# Altium schematic symbol library ubloxLib.SchLib: 59 symbols (part 1 of 2)
Pins are listed as number, name and electrical type; pins without a type are passive.

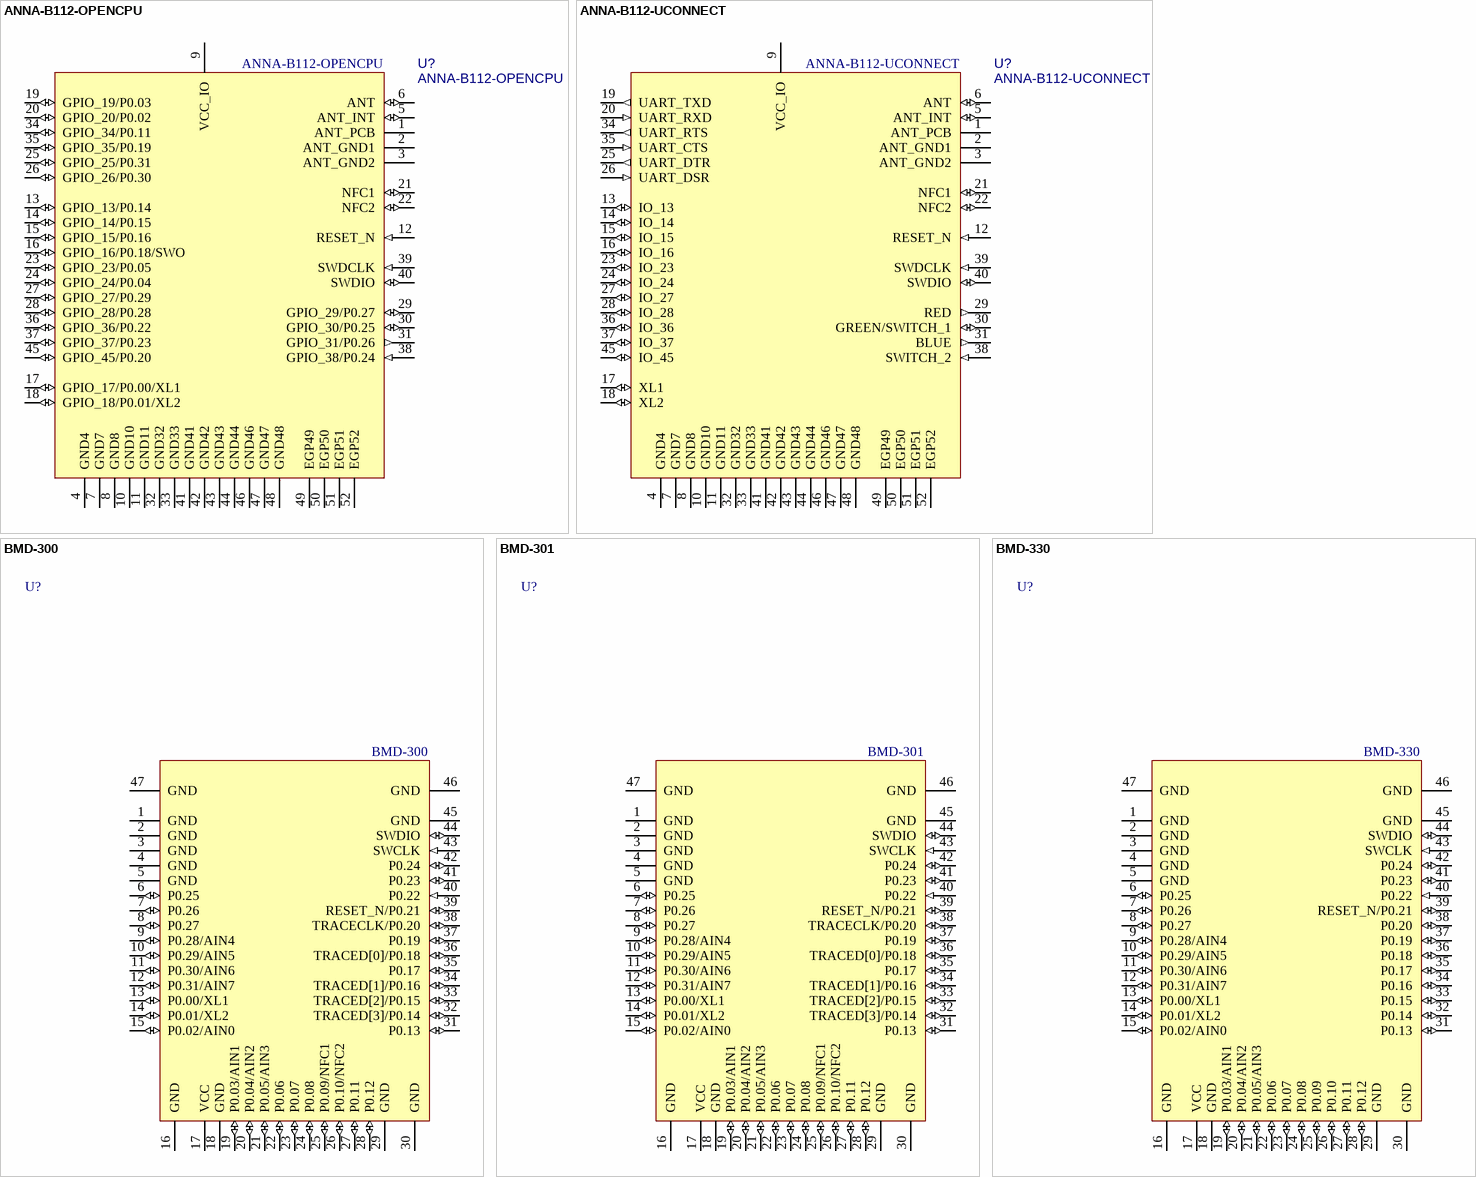
[diagram p0: symbols ANNA-B112-OPENCPU to BMD-330]

## ANNA-B112-OPENCPU
designator U?
u-blox ANNA-B112 Bluetooth 5 LE module; Part Description: Stand-alone Bluetooth low energy module; Manufacturer: u-blox; Value: ANNA-B112-OPENCPU
footprint ANNA_LGA52S_650X650
pins: 1 ANT_PCB, 2 ANT_GND1 (power), 3 ANT_GND2 (power), 4 GND4 (power), 5 ANT_INT (io), 6 ANT (io), 7 GND7 (power), 8 GND8 (power), 9 VCC_IO (power), 10 GND10 (power), 11 GND11 (power), 12 RESET_N (in), 13 GPIO_13/P0.14 (io), 14 GPIO_14/P0.15 (io), 15 GPIO_15/P0.16 (io), 16 GPIO_16/P0.18/SWO (io), 17 GPIO_17/P0.00/XL1 (io), 18 GPIO_18/P0.01/XL2 (io), 19 GPIO_19/P0.03 (io), 20 GPIO_20/P0.02 (io), 21 NFC1 (io), 22 NFC2 (io), 23 GPIO_23/P0.05 (io), 24 GPIO_24/P0.04 (io), 25 GPIO_25/P0.31 (io), 26 GPIO_26/P0.30 (io), 27 GPIO_27/P0.29 (io), 28 GPIO_28/P0.28 (io), 29 GPIO_29/P0.27 (io), 30 GPIO_30/P0.25 (io), 31 GPIO_31/P0.26 (out), 32 GND32 (power), 33 GND33 (power), 34 GPIO_34/P0.11 (io), 35 GPIO_35/P0.19 (io), 36 GPIO_36/P0.22 (io), 37 GPIO_37/P0.23 (io), 38 GPIO_38/P0.24 (in), 39 SWDCLK (in), 40 SWDIO (io), 41 GND41 (power), 42 GND42 (power), 43 GND43 (power), 44 GND44 (power), 45 GPIO_45/P0.20 (io), 46 GND46 (power), 47 GND47 (power), 48 GND48 (power), 49 EGP49 (power), 50 EGP50 (power), 51 EGP51 (power), 52 EGP52 (power)

## ANNA-B112-UCONNECT
designator U?
u-blox ANNA-B112 Bluetooth 5 LE module; Part Description: Stand-alone Bluetooth low energy module; Manufacturer: u-blox; Value: ANNA-B112-UCONNECT
footprint ANNA_LGA52S_650X650
pins: 1 ANT_PCB, 2 ANT_GND1 (power), 3 ANT_GND2 (power), 4 GND4 (power), 5 ANT_INT (io), 6 ANT (io), 7 GND7 (power), 8 GND8 (power), 9 VCC_IO (power), 10 GND10 (power), 11 GND11 (power), 12 RESET_N (in), 13 IO_13 (io), 14 IO_14 (io), 15 IO_15 (io), 16 IO_16 (io), 17 XL1 (io), 18 XL2 (io), 19 UART_TXD (out), 20 UART_RXD (in), 21 NFC1 (io), 22 NFC2 (io), 23 IO_23 (io), 24 IO_24 (io), 25 UART_DTR (out), 26 UART_DSR (in), 27 IO_27 (io), 28 IO_28 (io), 29 RED (out), 30 GREEN/SWITCH_1 (io), 31 BLUE (out), 32 GND32 (power), 33 GND33 (power), 34 UART_RTS (out), 35 UART_CTS (in), 36 IO_36 (io), 37 IO_37 (io), 38 SWITCH_2 (in), 39 SWDCLK (in), 40 SWDIO (io), 41 GND41 (power), 42 GND42 (power), 43 GND43 (power), 44 GND44 (power), 45 IO_45 (io), 46 GND46 (power), 47 GND47 (power), 48 GND48 (power), 49 EGP49 (power), 50 EGP50 (power), 51 EGP51 (power), 52 EGP52 (power)

## BMD-300
designator U?  Part Number: BMD-300
u-blox BMD-300 Bluetooth 5 LE module; Manufacturer P/N: BMD-300-A-R; Body Size: 14mm x 9.8mm; Internal Antenna: PCB; Protocol: BT 5 LE, 2.4GHz Proprietary; Manufacturer: u-blox; Height: 1.9mm
footprint BMD_LGA47S_1400X980X190_PCB (LGA, 47pin, 1.1mm Pitch, 14mm x 9.8mm)
pins: 1 GND (power), 2 GND (power), 3 GND (power), 4 GND (power), 5 GND (power), 6 P0.25 (io), 7 P0.26 (io), 8 P0.27 (io), 9 P0.28/AIN4 (io), 10 P0.29/AIN5 (io), 11 P0.30/AIN6 (io), 12 P0.31/AIN7 (io), 13 P0.00/XL1 (io), 14 P0.01/XL2 (io), 15 P0.02/AIN0 (io), 16 GND (power), 17 VCC (power), 18 GND (power), 19 P0.03/AIN1 (io), 20 P0.04/AIN2 (io), 21 P0.05/AIN3 (io), 22 P0.06 (io), 23 P0.07 (io), 24 P0.08 (io), 25 P0.09/NFC1 (io), 26 P0.10/NFC2 (io), 27 P0.11 (io), 28 P0.12 (io), 29 GND (power), 30 GND (power), 31 P0.13 (io), 32 TRACED[3]/P0.14 (io), 33 TRACED[2]/P0.15 (io), 34 TRACED[1]/P0.16 (io), 35 P0.17 (io), 36 TRACED[0]/P0.18 (io), 37 P0.19 (io), 38 TRACECLK/P0.20 (io), 39 RESET_N/P0.21 (io), 40 P0.22 (in), 41 P0.23 (io), 42 P0.24 (io), 43 SWCLK (in), 44 SWDIO (io), 45 GND (power), 46 GND (power), 47 GND (power)

## BMD-301
designator U?  Part Number: BMD-301
u-blox BMD-301 Bluetooth 5 LE module; Manufacturer P/N: BMD-301-A-R; Body Size: 14mm x 9.8mm; Internal Antenna: U.FL; Protocol: BT 5 LE, 2.4GHz Proprietary; Manufacturer: u-blox; Height: 1.9mm
footprint BMD_LGA47S_1400X980X190_UFL (LGA, 47pin, 1.1mm Pitch, 14mm x 9.8mm)
pins: 1 GND (power), 2 GND (power), 3 GND (power), 4 GND (power), 5 GND (power), 6 P0.25 (io), 7 P0.26 (io), 8 P0.27 (io), 9 P0.28/AIN4 (io), 10 P0.29/AIN5 (io), 11 P0.30/AIN6 (io), 12 P0.31/AIN7 (io), 13 P0.00/XL1 (io), 14 P0.01/XL2 (io), 15 P0.02/AIN0 (io), 16 GND (power), 17 VCC (power), 18 GND (power), 19 P0.03/AIN1 (io), 20 P0.04/AIN2 (io), 21 P0.05/AIN3 (io), 22 P0.06 (io), 23 P0.07 (io), 24 P0.08 (io), 25 P0.09/NFC1 (io), 26 P0.10/NFC2 (io), 27 P0.11 (io), 28 P0.12 (io), 29 GND (power), 30 GND (power), 31 P0.13 (io), 32 TRACED[3]/P0.14 (io), 33 TRACED[2]/P0.15 (io), 34 TRACED[1]/P0.16 (io), 35 P0.17 (io), 36 TRACED[0]/P0.18 (io), 37 P0.19 (io), 38 TRACECLK/P0.20 (io), 39 RESET_N/P0.21 (io), 40 P0.22 (in), 41 P0.23 (io), 42 P0.24 (io), 43 SWCLK (in), 44 SWDIO (io), 45 GND (power), 46 GND (power), 47 GND (power)

## BMD-330
designator U?  Part Number: BMD-330
u-blox BMD-330 Bluetooth 5 LE module; Manufacturer P/N: BMD-330-A-R; Body Size: 14mm x 9.8mm; Internal Antenna: PCB; Protocol: BT 5 LE, 2.4GHz Proprietary; Manufacturer: u-blox; Height: 1.9mm
footprint BMD_LGA47S_1400X980X190_PCB (LGA, 47pin, 1.1mm Pitch, 14mm x 9.8mm)
pins: 1 GND (power), 2 GND (power), 3 GND (power), 4 GND (power), 5 GND (power), 6 P0.25 (io), 7 P0.26 (io), 8 P0.27 (io), 9 P0.28/AIN4 (io), 10 P0.29/AIN5 (io), 11 P0.30/AIN6 (io), 12 P0.31/AIN7 (io), 13 P0.00/XL1 (io), 14 P0.01/XL2 (io), 15 P0.02/AIN0 (io), 16 GND (power), 17 VCC (power), 18 GND (power), 19 P0.03/AIN1 (io), 20 P0.04/AIN2 (io), 21 P0.05/AIN3 (io), 22 P0.06 (io), 23 P0.07 (io), 24 P0.08 (io), 25 P0.09 (io), 26 P0.10 (io), 27 P0.11 (io), 28 P0.12 (io), 29 GND (power), 30 GND (power), 31 P0.13 (io), 32 P0.14 (io), 33 P0.15 (io), 34 P0.16 (io), 35 P0.17 (io), 36 P0.18 (io), 37 P0.19 (io), 38 P0.20 (io), 39 RESET_N/P0.21 (io), 40 P0.22 (in), 41 P0.23 (io), 42 P0.24 (io), 43 SWCLK (in), 44 SWDIO (io), 45 GND (power), 46 GND (power), 47 GND (power)

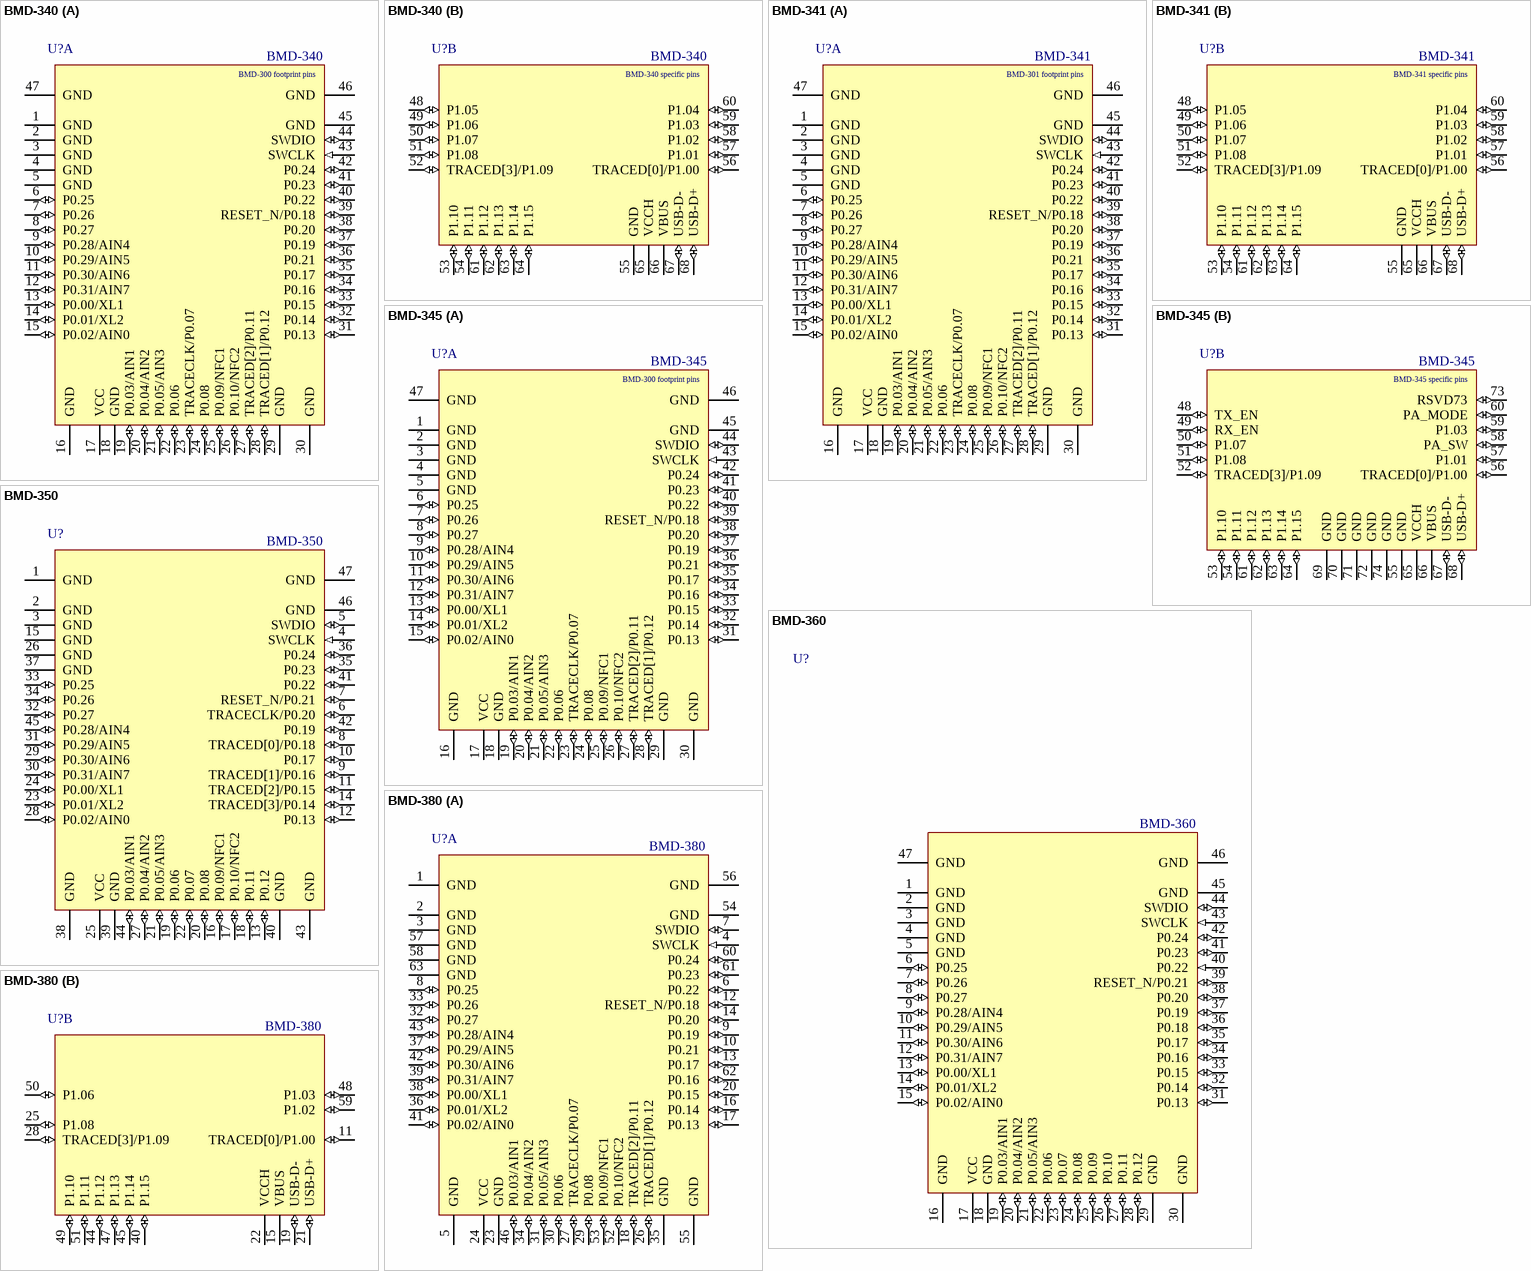
[diagram p1: symbols BMD-340 to BMD-380]

## BMD-340
designator U?  Part Number: BMD-340
u-blox BMD-340 Bluetooth 5 LE, 802.15.4 module; Manufacturer P/N: BMD-340-A-R; Body Size: 15mm x 10.2mm; Internal Antenna: PCB; Protocol: BT 5 LE, 802.15.4, 2.4GHz Proprietary; Manufacturer: u-blox; Height: 1.9mm
footprint BMD_LGA68S_1500X1020X190_PCB (LGA, 68pin, 1.1mm Pitch, 15mm x 10.2mm)
part A pins: 1 GND (power), 2 GND (power), 3 GND (power), 4 GND (power), 5 GND (power), 6 P0.25 (io), 7 P0.26 (io), 8 P0.27 (io), 9 P0.28/AIN4 (io), 10 P0.29/AIN5 (io), 11 P0.30/AIN6 (io), 12 P0.31/AIN7 (io), 13 P0.00/XL1 (io), 14 P0.01/XL2 (io), 15 P0.02/AIN0 (io), 16 GND (power), 17 VCC (power), 18 GND (power), 19 P0.03/AIN1 (io), 20 P0.04/AIN2 (io), 21 P0.05/AIN3 (io), 22 P0.06 (io), 23 TRACECLK/P0.07 (io), 24 P0.08 (io), 25 P0.09/NFC1 (io), 26 P0.10/NFC2 (io), 27 TRACED[2]/P0.11 (io), 28 TRACED[1]/P0.12 (io), 29 GND (power), 30 GND (power), 31 P0.13 (io), 32 P0.14 (io), 33 P0.15 (io), 34 P0.16 (io), 35 P0.17 (io), 36 P0.21 (io), 37 P0.19 (io), 38 P0.20 (io), 39 RESET_N/P0.18 (io), 40 P0.22 (io), 41 P0.23 (io), 42 P0.24 (io), 43 SWCLK (in), 44 SWDIO (io), 45 GND (power), 46 GND (power), 47 GND (power)
part B pins: 48 P1.05 (io), 49 P1.06 (io), 50 P1.07 (io), 51 P1.08 (io), 52 TRACED[3]/P1.09 (io), 53 P1.10 (io), 54 P1.11 (io), 55 GND (power), 56 TRACED[0]/P1.00 (io), 57 P1.01 (io), 58 P1.02 (io), 59 P1.03 (io), 60 P1.04 (io), 61 P1.12 (io), 62 P1.13 (io), 63 P1.14 (io), 64 P1.15 (io), 65 VCCH (power), 66 VBUS (power), 67 USB-D- (io), 68 USB-D+ (io)
part A text: BMD-300 footprint pins
part B text: BMD-340 specific pins

## BMD-341
designator U?  Part Number: BMD-341
u-blox BMD-341 Bluetooth 5 LE, 802.15.4 module; Manufacturer P/N: BMD-341-A-R; Body Size: 15mm x 10.2mm; Internal Antenna: PCB; Protocol: BT 5 LE, 802.15.4, 2.4GHz Proprietary; Manufacturer: u-blox; Height: 1.9mm
footprint BMD_LGA68S_1500X1020X190_UFL (LGA, 68pin, 1.1mm Pitch, 15mm x 10.2mm)
part A pins: 1 GND (power), 2 GND (power), 3 GND (power), 4 GND (power), 5 GND (power), 6 P0.25 (io), 7 P0.26 (io), 8 P0.27 (io), 9 P0.28/AIN4 (io), 10 P0.29/AIN5 (io), 11 P0.30/AIN6 (io), 12 P0.31/AIN7 (io), 13 P0.00/XL1 (io), 14 P0.01/XL2 (io), 15 P0.02/AIN0 (io), 16 GND (power), 17 VCC (power), 18 GND (power), 19 P0.03/AIN1 (io), 20 P0.04/AIN2 (io), 21 P0.05/AIN3 (io), 22 P0.06 (io), 23 TRACECLK/P0.07 (io), 24 P0.08 (io), 25 P0.09/NFC1 (io), 26 P0.10/NFC2 (io), 27 TRACED[2]/P0.11 (io), 28 TRACED[1]/P0.12 (io), 29 GND (power), 30 GND (power), 31 P0.13 (io), 32 P0.14 (io), 33 P0.15 (io), 34 P0.16 (io), 35 P0.17 (io), 36 P0.21 (io), 37 P0.19 (io), 38 P0.20 (io), 39 RESET_N/P0.18 (io), 40 P0.22 (io), 41 P0.23 (io), 42 P0.24 (io), 43 SWCLK (in), 44 SWDIO (io), 45 GND (power), 46 GND (power), 47 GND (power)
part B pins: 48 P1.05 (io), 49 P1.06 (io), 50 P1.07 (io), 51 P1.08 (io), 52 TRACED[3]/P1.09 (io), 53 P1.10 (io), 54 P1.11 (io), 55 GND (power), 56 TRACED[0]/P1.00 (io), 57 P1.01 (io), 58 P1.02 (io), 59 P1.03 (io), 60 P1.04 (io), 61 P1.12 (io), 62 P1.13 (io), 63 P1.14 (io), 64 P1.15 (io), 65 VCCH (power), 66 VBUS (power), 67 USB-D- (io), 68 USB-D+ (io)
part A text: BMD-301 footprint pins
part B text: BMD-341 specific pins

## BMD-345
designator U?  Part Number: BMD-345
u-blox BMD-345 Bluetooth 5 LE, 802.15.4 module with FEM; Manufacturer P/N: BMD-345-A-R; Body Size: 15mm x 10.2mm; Internal Antenna: PCB; Protocol: BT 5 LE, 802.15.4, 2.4GHz Proprietary; Manufacturer: u-blox; Height: 1.9mm
footprint BMD_LGA74S_1500X1020X190_UFL (LGA, 68pin, 1.1mm Pitch, 15mm x 10.2mm)
part A pins: 1 GND (power), 2 GND (power), 3 GND (power), 4 GND (power), 5 GND (power), 6 P0.25 (io), 7 P0.26 (io), 8 P0.27 (io), 9 P0.28/AIN4 (io), 10 P0.29/AIN5 (io), 11 P0.30/AIN6 (io), 12 P0.31/AIN7 (io), 13 P0.00/XL1 (io), 14 P0.01/XL2 (io), 15 P0.02/AIN0 (io), 16 GND (power), 17 VCC (power), 18 GND (power), 19 P0.03/AIN1 (io), 20 P0.04/AIN2 (io), 21 P0.05/AIN3 (io), 22 P0.06 (io), 23 TRACECLK/P0.07 (io), 24 P0.08 (io), 25 P0.09/NFC1 (io), 26 P0.10/NFC2 (io), 27 TRACED[2]/P0.11 (io), 28 TRACED[1]/P0.12 (io), 29 GND (power), 30 GND (power), 31 P0.13 (io), 32 P0.14 (io), 33 P0.15 (io), 34 P0.16 (io), 35 P0.17 (io), 36 P0.21 (io), 37 P0.19 (io), 38 P0.20 (io), 39 RESET_N/P0.18 (io), 40 P0.22 (io), 41 P0.23 (io), 42 P0.24 (io), 43 SWCLK (in), 44 SWDIO (io), 45 GND (power), 46 GND (power), 47 GND (power)
part B pins: 48 TX_EN (io), 49 RX_EN (io), 50 P1.07 (io), 51 P1.08 (io), 52 TRACED[3]/P1.09 (io), 53 P1.10 (io), 54 P1.11 (io), 55 GND (power), 56 TRACED[0]/P1.00 (io), 57 P1.01 (io), 58 PA_SW (io), 59 P1.03 (io), 60 PA_MODE (io), 61 P1.12 (io), 62 P1.13 (io), 63 P1.14 (io), 64 P1.15 (io), 65 VCCH (power), 66 VBUS (power), 67 USB-D- (io), 68 USB-D+ (io), 69 GND (power), 70 GND (power), 71 GND (power), 72 GND (power), 73 RSVD73 (io), 74 GND (power)
part A text: BMD-300 footprint pins
part B text: BMD-345 specific pins

## BMD-350
designator U?  Part Number: BMD-350
u-blox BMD-350 Bluetooth 5 LE module; Manufacturer P/N: BMD-350-A-R; Internal Antenna: CHIP; Protocol: BT 5 LE, 2.4GHz Proprietary; Body Size: 8.65mm x 6.4mm; Height: 1.5mm; Manufacturer: u-blox
footprint BMD_LGA47S_865X640X150_CHIP (LGA, 47pin, 0.8mm Pitch, 8.65mm x 6.4mm)
pins: 1 GND (power), 2 GND (power), 3 GND (power), 4 SWCLK (in), 5 SWDIO (io), 6 TRACECLK/P0.20 (io), 7 RESET_N/P0.21 (io), 8 TRACED[0]/P0.18 (io), 9 TRACED[1]/P0.16 (io), 10 P0.17 (io), 11 TRACED[2]/P0.15 (io), 12 P0.13 (io), 13 P0.12 (io), 14 TRACED[3]/P0.14 (io), 15 GND (power), 16 P0.09/NFC1 (io), 17 P0.10/NFC2 (io), 18 P0.11 (io), 19 P0.06 (io), 20 P0.08 (io), 21 P0.05/AIN3 (io), 22 P0.07 (io), 23 P0.01/XL2 (io), 24 P0.00/XL1 (io), 25 VCC (power), 26 GND (power), 27 P0.04/AIN2 (io), 28 P0.02/AIN0 (io), 29 P0.30/AIN6 (io), 30 P0.31/AIN7 (io), 31 P0.29/AIN5 (io), 32 P0.27 (io), 33 P0.25 (io), 34 P0.26 (io), 35 P0.23 (io), 36 P0.24 (io), 37 GND (power), 38 GND (power), 39 GND (power), 40 GND (power), 41 P0.22 (io), 42 P0.19 (io), 43 GND (power), 44 P0.03/AIN1 (io), 45 P0.28/AIN4 (io), 46 GND (power), 47 GND (power)

## BMD-360
designator U?  Part Number: BMD-360
u-blox BMD-360 Bluetooth 5.1 LE, 802.15.4 module; Manufacturer P/N: BMD-360-A-R; Body Size: 14mm x 9.8mm; Internal Antenna: PCB; Protocol: BT 5.1 LE, 802.15.4, 2.4GHz Proprietary; Manufacturer: u-blox; Height: 1.9mm
footprint BMD_LGA47S_1400X980X190_PCB (LGA, 47pin, 1.1mm Pitch, 14mm x 9.8mm)
pins: 1 GND (power), 2 GND (power), 3 GND (power), 4 GND (power), 5 GND (power), 6 P0.25 (io), 7 P0.26 (io), 8 P0.27 (io), 9 P0.28/AIN4 (io), 10 P0.29/AIN5 (io), 11 P0.30/AIN6 (io), 12 P0.31/AIN7 (io), 13 P0.00/XL1 (io), 14 P0.01/XL2 (io), 15 P0.02/AIN0 (io), 16 GND (power), 17 VCC (power), 18 GND (power), 19 P0.03/AIN1 (io), 20 P0.04/AIN2 (io), 21 P0.05/AIN3 (io), 22 P0.06 (io), 23 P0.07 (io), 24 P0.08 (io), 25 P0.09 (io), 26 P0.10 (io), 27 P0.11 (io), 28 P0.12 (io), 29 GND (power), 30 GND (power), 31 P0.13 (io), 32 P0.14 (io), 33 P0.15 (io), 34 P0.16 (io), 35 P0.17 (io), 36 P0.18 (io), 37 P0.19 (io), 38 P0.20 (io), 39 RESET_N/P0.21 (io), 40 P0.22 (in), 41 P0.23 (io), 42 P0.24 (io), 43 SWCLK (in), 44 SWDIO (io), 45 GND (power), 46 GND (power), 47 GND (power)

## BMD-380
designator U?  Part Number: BMD-380
u-blox BMD-380 Bluetooth 5 LE, 802.15.4 module; Manufacturer P/N: BMD-380-A-R; Body Size: 9.5mm x 7.5mm; Internal Antenna: Yes; Protocol: BT 5.1 LE, 802.15.4, 2.4GHz Proprietary; Manufacturer: u-blox; Height: 1.5mm
footprint BMD_LGA63S_950X750X150_CHIP (WLCSP, 63pin, 0.85mm Pitch, 9.5mm x 7.5mm)
part A pins: 1 GND (power), 2 GND (power), 3 GND (power), 4 SWCLK (in), 5 GND (power), 6 P0.22 (io), 7 SWDIO (io), 8 P0.25 (io), 9 P0.19 (io), 10 P0.21 (io), 12 RESET_N/P0.18 (io), 13 P0.17 (io), 14 P0.20 (io), 16 P0.14 (io), 17 P0.13 (io), 18 TRACED[2]/P0.11 (io), 20 P0.15 (io), 23 GND (power), 24 VCC (power), 26 TRACED[1]/P0.12 (io), 27 TRACECLK/P0.07 (io), 29 P0.08 (io), 30 P0.06 (io), 31 P0.05/AIN3 (io), 32 P0.27 (io), 33 P0.26 (io), 34 P0.04/AIN2 (io), 35 GND (power), 36 P0.01/XL2 (io), 37 P0.29/AIN5 (io), 38 P0.00/XL1 (io), 39 P0.31/AIN7 (io), 41 P0.02/AIN0 (io), 42 P0.30/AIN6 (io), 43 P0.28/AIN4 (io), 46 P0.03/AIN1 (io), 52 P0.10/NFC2 (io), 53 P0.09/NFC1 (io), 54 GND (power), 55 GND (power), 56 GND (power), 57 GND (power), 58 GND (power), 60 P0.24 (io), 61 P0.23 (io), 62 P0.16 (io), 63 GND (power)
part B pins: 11 TRACED[0]/P1.00 (io), 15 VBUS (power), 19 USB-D- (io), 21 USB-D+ (io), 22 VCCH (power), 25 P1.08 (io), 28 TRACED[3]/P1.09 (io), 40 P1.15 (io), 44 P1.12 (io), 45 P1.14 (io), 47 P1.13 (io), 48 P1.03 (io), 49 P1.10 (io), 50 P1.06 (io), 51 P1.11 (io), 59 P1.02 (io)

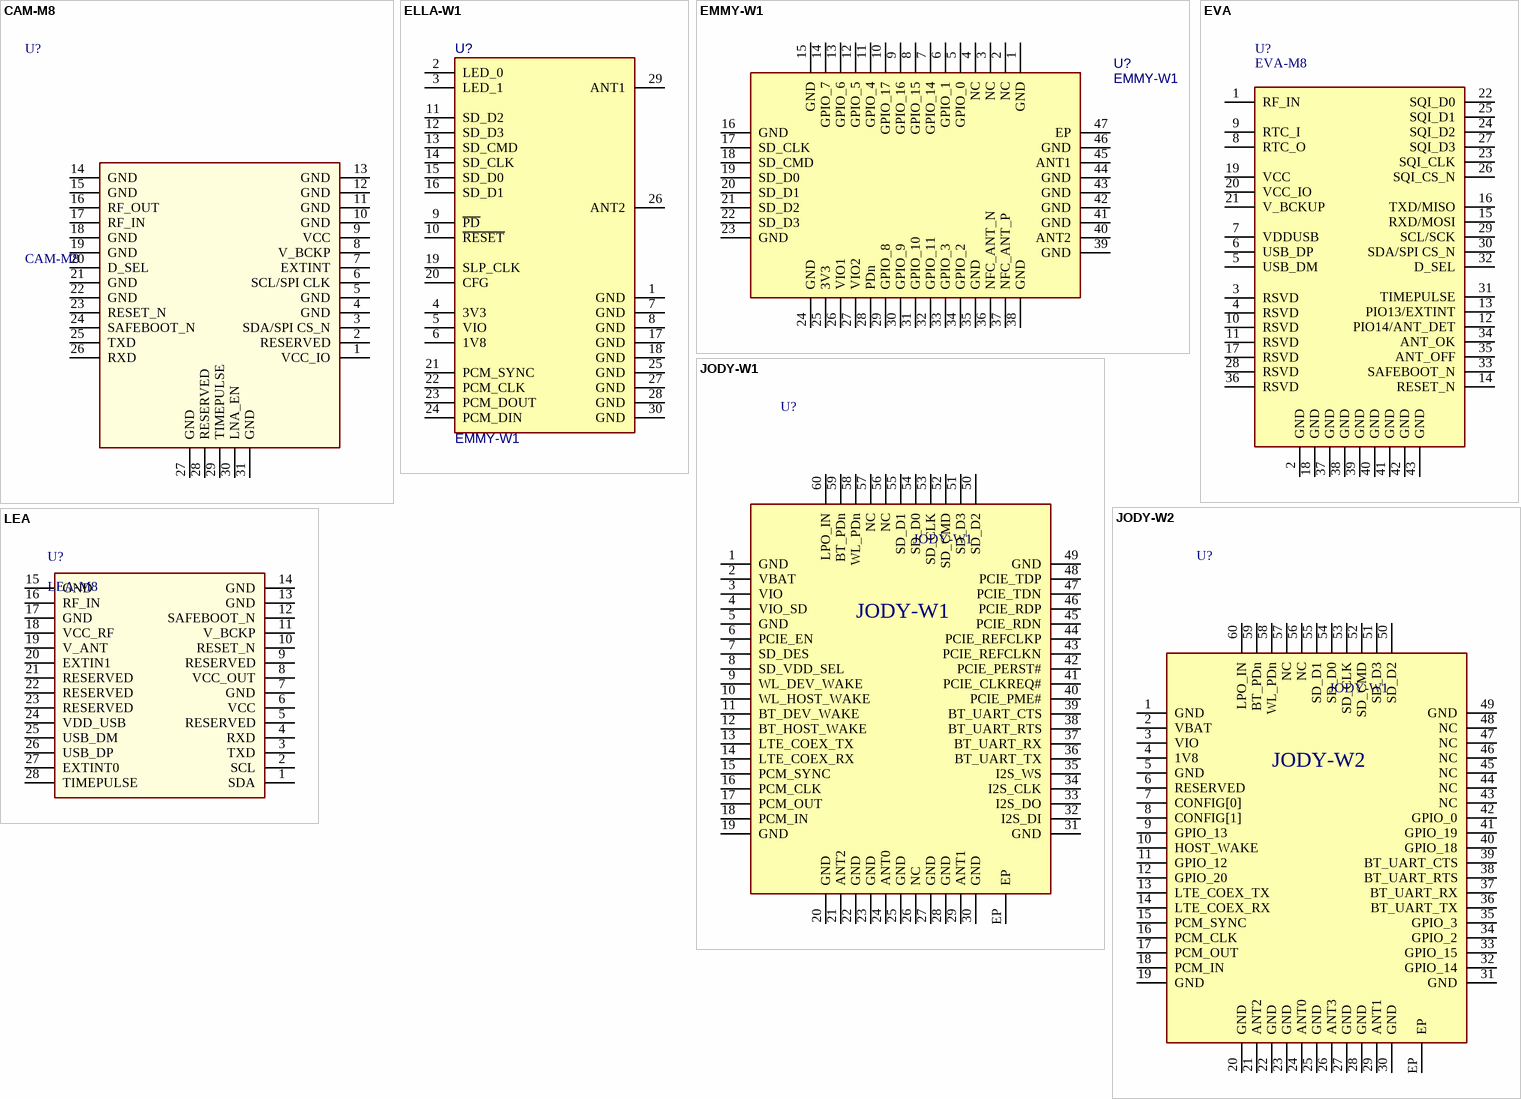
[diagram p2: symbols CAM-M8 to LEA]

## CAM-M8
designator U?
u-blox CAM GNSS antenna module; Manufacturer: u-blox; Part Description: u-blox CAM GNSS antenna module; Value: CAM-M8
footprint CAM (u-blox CAM GNSS antenna module)
pins: 1 VCC_IO, 2 RESERVED, 3 SDA/SPI CS_N, 4 GND, 5 GND, 6 SCL/SPI CLK, 7 EXTINT, 8 V_BCKP, 9 VCC, 10 GND, 11 GND, 12 GND, 13 GND, 14 GND, 15 GND, 16 RF_OUT, 17 RF_IN, 18 GND, 19 GND, 20 D_SEL, 21 GND, 22 GND, 23 RESET_N, 24 SAFEBOOT_N, 25 TXD, 26 RXD, 27 GND, 28 RESERVED, 29 TIMEPULSE, 30 LNA_EN, 31 GND

## ELLA-W1
designator U?, comment EMMY-W1
u-blox ELLA-W1 IEEE 802.11a/b/g/n Wi-Fi, Bluetooth 3.0+HS Module; Manufacturer: u-blox; Part Description: IEEE 802.11a/b/g/n Wi-Fi, Bluetooth 3.0+HS Module; Value: EMMY-W1
footprint ELLA-W1 (IEEE 802.11a/b/g/n Wi-Fi, Bluetooth 3.0+HS Module)
pins: 1 GND (power), 2 LED_0, 3 LED_1, 4 3V3 (power), 5 VIO (power), 6 1V8 (power), 7 GND (power), 8 GND (power), 9 ~{PD}, 10 ~{RESET}, 11 SD_D2, 12 SD_D3, 13 SD_CMD, 14 SD_CLK, 15 SD_D0, 16 SD_D1, 17 GND (power), 18 GND (power), 19 SLP_CLK, 20 CFG, 21 PCM_SYNC, 22 PCM_CLK, 23 PCM_DOUT, 24 PCM_DIN, 25 GND (power), 26 ANT2, 27 GND (power), 28 GND (power), 29 ANT1, 30 GND (power)

## EMMY-W1
designator U?
u-blox EMMY-W1 host-based multiradio module with Wi-Fi, Bluetooth and NFC; Part Description: Host-based multiradio module with Wi-Fi, Bluetooth and NFC; Value: EMMY-W1; Manufacturer: u-blox
footprint EMMY-W1 (Host-based multiradio module with Wi-Fi, Bluetooth and NFC)
pins: 1 GND, 2 NC, 3 NC, 4 NC, 5 GPIO_0, 6 GPIO_1, 7 GPIO_14, 8 GPIO_15, 9 GPIO_16, 10 GPIO_17, 11 GPIO_4, 12 GPIO_5, 13 GPIO_6, 14 GPIO_7, 15 GND, 16 GND, 17 SD_CLK, 18 SD_CMD, 19 SD_D0, 20 SD_D1, 21 SD_D2, 22 SD_D3, 23 GND, 24 GND, 25 3V3, 26 VIO1, 27 VIO2, 28 PDn, 29 GPIO_8, 30 GPIO_9, 31 GPIO_10, 32 GPIO_11, 33 GPIO_3, 34 GPIO_2, 35 GND, 36 NFC_ANT_N, 37 NFC_ANT_P, 38 GND, 39 GND, 40 ANT2, 41 GND, 42 GND, 43 GND, 44 GND, 45 ANT1, 46 GND, 47 EP

## EVA
designator U?, comment EVA-M8
u-blox EVA GNSS module; Part Description: u-blox EVA-M8 GNSS moduel; Manufacturer: u-blox; Value: EVA-M8
footprint EVA (u-blox EVA GNSS module)
pins: 1 RF_IN, 2 GND (power), 3 RSVD, 4 RSVD, 5 USB_DM, 6 USB_DP, 7 VDDUSB (power), 8 RTC_O, 9 RTC_I, 10 RSVD, 11 RSVD, 12 PIO14/ANT_DET, 13 PIO13/EXTINT, 14 RESET_N, 15 RXD/MOSI, 16 TXD/MISO, 17 RSVD, 18 GND (power), 19 VCC (power), 20 VCC_IO (power), 21 V_BCKUP (power), 22 SQI_D0, 23 SQI_CLK, 24 SQI_D2, 25 SQI_D1, 26 SQI_CS_N, 27 SQI_D3, 28 RSVD, 29 SCL/SCK, 30 SDA/SPI CS_N, 31 TIMEPULSE, 32 D_SEL, 33 SAFEBOOT_N, 34 ANT_OK, 35 ANT_OFF, 36 RSVD, 37 GND (power), 38 GND (power), 39 GND (power), 40 GND (power), 41 GND (power), 42 GND (power), 43 GND (power)

## JODY-W1
designator U?
u-blox JODY-W1 host-based modules with Wi-Fi and dual-mode Bluetooth; Value: JODY-W1; Manufacturer: u-blox; Part Description: Host-based modules with Wi-Fi and dual-mode Bluetooth
footprint JODY-W1
pins: 1 GND, 2 VBAT, 3 VIO, 4 VIO_SD (power), 5 GND, 6 PCIE_EN, 7 SD_DES, 8 SD_VDD_SEL, 9 WL_DEV_WAKE, 10 WL_HOST_WAKE, 11 BT_DEV_WAKE, 12 BT_HOST_WAKE, 13 LTE_COEX_TX, 14 LTE_COEX_RX, 15 PCM_SYNC, 16 PCM_CLK, 17 PCM_OUT, 18 PCM_IN, 19 GND, 20 GND, 21 ANT2, 22 GND, 23 GND, 24 ANT0, 25 GND, 26 NC, 27 GND, 28 GND, 29 ANT1, 30 GND, 31 GND, 32 I2S_DI, 33 I2S_DO, 34 I2S_CLK, 35 I2S_WS, 36 BT_UART_TX, 37 BT_UART_RX, 38 BT_UART_RTS, 39 BT_UART_CTS, 40 PCIE_PME#, 41 PCIE_CLKREQ#, 42 PCIE_PERST#, 43 PCIE_REFCLKN, 44 PCIE_REFCLKP, 45 PCIE_RDN, 46 PCIE_RDP, 47 PCIE_TDN, 48 PCIE_TDP, 49 GND, 50 SD_D2, 51 SD_D3, 52 SD_CMD, 53 SD_CLK, 54 SD_D0, 55 SD_D1, 56 NC, 57 NC, 58 WL_PDn, 59 BT_PDn, 60 LPO_IN, EP

## JODY-W2
designator U?, comment JODY-W1
u-blox JODY-W2 host-based modules with Wi-Fi and dual-mode Bluetooth; Value: JODY-W1; Manufacturer: u-blox; Part Description: Host-based modules with Wi-Fi and dual-mode Bluetooth
footprint JODY-W1
pins: 1 GND, 2 VBAT, 3 VIO, 4 1V8 (power), 5 GND, 6 RESERVED, 7 CONFIG[0], 8 CONFIG[1], 9 GPIO_13, 10 HOST_WAKE, 11 GPIO_12, 12 GPIO_20, 13 LTE_COEX_TX, 14 LTE_COEX_RX, 15 PCM_SYNC, 16 PCM_CLK, 17 PCM_OUT, 18 PCM_IN, 19 GND, 20 GND, 21 ANT2, 22 GND, 23 GND, 24 ANT0, 25 GND, 26 ANT3, 27 GND, 28 GND, 29 ANT1, 30 GND, 31 GND, 32 GPIO_14, 33 GPIO_15, 34 GPIO_2, 35 GPIO_3, 36 BT_UART_TX, 37 BT_UART_RX, 38 BT_UART_RTS, 39 BT_UART_CTS, 40 GPIO_18, 41 GPIO_19, 42 GPIO_0, 43 NC, 44 NC, 45 NC, 46 NC, 47 NC, 48 NC, 49 GND, 50 SD_D2, 51 SD_D3, 52 SD_CMD, 53 SD_CLK, 54 SD_D0, 55 SD_D1, 56 NC, 57 NC, 58 WL_PDn, 59 BT_PDn, 60 LPO_IN, EP

## LEA
designator U?, comment LEA-M8
u-blox LEA GNSS module; Part Description: u-blox LEA-M8 GNSS module; Manufacturer: u-blox; Value: LEA-M8
footprint LEA (u-blox LEA GNSS module)
pins: 1 SDA, 2 SCL, 3 TXD, 4 RXD, 5 RESERVED, 6 VCC, 7 GND, 8 VCC_OUT, 9 RESERVED, 10 RESET_N, 11 V_BCKP, 12 SAFEBOOT_N, 13 GND, 14 GND, 15 GND, 16 RF_IN, 17 GND, 18 VCC_RF, 19 V_ANT, 20 EXTIN1, 21 RESERVED, 22 RESERVED, 23 RESERVED, 24 VDD_USB, 25 USB_DM, 26 USB_DP, 27 EXTINT0, 28 TIMEPULSE

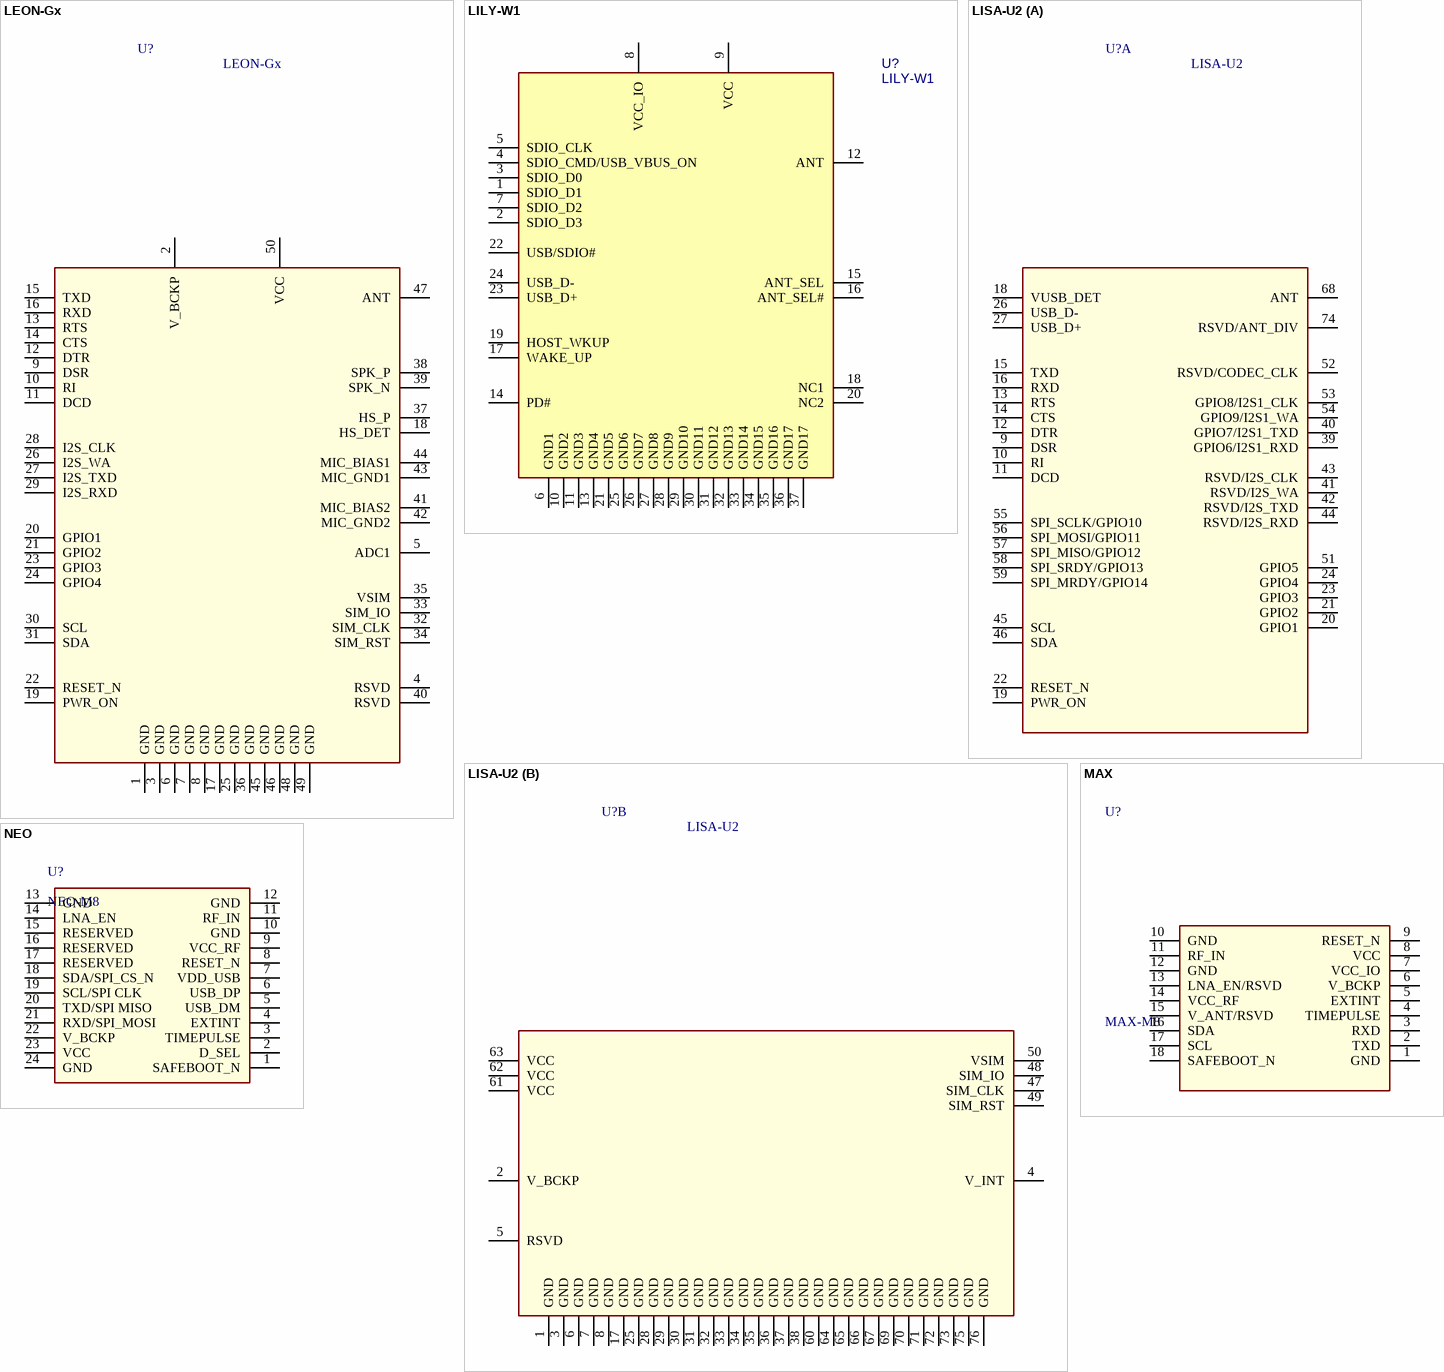
[diagram p3: symbols LEON-Gx to NEO]

## LEON-Gx
designator U?
u-blox LEON-Gx quad-band GSM/GPRS data & voice module; Manufacturer: u-blox; Part Description: quad-band GSM/GPRS data & voice module; Value: LEON-Gx
footprint LEON-Gx (quad-band GSM/GPRS data & voice module)
pins: 1 GND, 2 V_BCKP, 3 GND, 4 RSVD, 5 ADC1, 6 GND, 7 GND, 8 GND, 9 DSR, 10 RI, 11 DCD, 12 DTR, 13 RTS, 14 CTS, 15 TXD, 16 RXD, 17 GND, 18 HS_DET, 19 PWR_ON, 20 GPIO1, 21 GPIO2, 22 RESET_N, 23 GPIO3, 24 GPIO4, 25 GND, 26 I2S_WA, 27 I2S_TXD, 28 I2S_CLK, 29 I2S_RXD, 30 SCL, 31 SDA, 32 SIM_CLK, 33 SIM_IO, 34 SIM_RST, 35 VSIM, 36 GND, 37 HS_P, 38 SPK_P, 39 SPK_N, 40 RSVD, 41 MIC_BIAS2, 42 MIC_GND2, 43 MIC_GND1, 44 MIC_BIAS1, 45 GND, 46 GND, 47 ANT, 48 GND, 49 GND, 50 VCC

## LILY-W1
designator U?
u-blox LILY-W1 host-based Wi-Fi module; Part Description: Host-based Wi-Fi module; Value: LILY-W1; Manufacturer: u-blox
footprint LILY-W1 (Host-based Wi-Fi module)
pins: 1 SDIO_D1, 2 SDIO_D3, 3 SDIO_D0, 4 SDIO_CMD/USB_VBUS_ON, 5 SDIO_CLK, 6 GND1, 7 SDIO_D2, 8 VCC_IO, 9 VCC, 10 GND2, 11 GND3, 12 ANT, 13 GND4, 14 PD#, 15 ANT_SEL, 16 ANT_SEL#, 17 WAKE_UP, 18 NC1, 19 HOST_WKUP, 20 NC2, 21 GND5, 22 USB/SDIO#, 23 USB_D+, 24 USB_D-, 25 GND6, 26 GND7, 27 GND8, 28 GND9, 29 GND10, 30 GND11, 31 GND12, 32 GND13, 33 GND14, 34 GND15, 35 GND16, 36 GND17, 37 GND17

## LISA-U2
designator U?
u-blox LISA-U2 3.75G HSPA+ Cellular Module; Manufacturer: u-blox; Part Description: 3.75G HSPA+ Cellular Module; Value: LISA-U2
footprint LISA-u2 (3.75G HSPA+ Cellular Module)
part A pins: 9 DSR, 10 RI, 11 DCD, 12 DTR, 13 RTS, 14 CTS, 15 TXD, 16 RXD, 18 VUSB_DET, 19 PWR_ON, 20 GPIO1, 21 GPIO2, 22 RESET_N, 23 GPIO3, 24 GPIO4, 26 USB_D-, 27 USB_D+, 39 GPIO6/I2S1_RXD, 40 GPIO7/I2S1_TXD, 41 RSVD/I2S_WA, 42 RSVD/I2S_TXD, 43 RSVD/I2S_CLK, 44 RSVD/I2S_RXD, 45 SCL, 46 SDA, 51 GPIO5, 52 RSVD/CODEC_CLK, 53 GPIO8/I2S1_CLK, 54 GPIO9/I2S1_WA, 55 SPI_SCLK/GPIO10, 56 SPI_MOSI/GPIO11, 57 SPI_MISO/GPIO12, 58 SPI_SRDY/GPIO13, 59 SPI_MRDY/GPIO14, 68 ANT, 74 RSVD/ANT_DIV
part B pins: 1 GND, 2 V_BCKP, 3 GND, 4 V_INT, 5 RSVD, 6 GND, 7 GND, 8 GND, 17 GND, 25 GND, 28 GND, 29 GND, 30 GND, 31 GND, 32 GND, 33 GND, 34 GND, 35 GND, 36 GND, 37 GND, 38 GND, 47 SIM_CLK, 48 SIM_IO, 49 SIM_RST, 50 VSIM, 60 GND, 61 VCC, 62 VCC, 63 VCC, 64 GND, 65 GND, 66 GND, 67 GND, 69 GND, 70 GND, 71 GND, 72 GND, 73 GND, 75 GND, 76 GND

## MAX
designator U?, comment MAX-M8
u-blox MAX GNSS module; Part Description: u-blox GNSS module; Manufacturer: u-blox; Value: MAX-M8
footprint MAX-M8 (u-blox M8 concurrent GNSS modules)
pins: 1 GND, 2 TXD, 3 RXD, 4 TIMEPULSE, 5 EXTINT, 6 V_BCKP, 7 VCC_IO, 8 VCC, 9 RESET_N, 10 GND, 11 RF_IN, 12 GND, 13 LNA_EN/RSVD, 14 VCC_RF, 15 V_ANT/RSVD, 16 SDA, 17 SCL, 18 SAFEBOOT_N

## NEO
designator U?, comment NEO-M8
u-blox NEO GNSS module; Part Description: u-blox GNSS module; Manufacturer: u-blox; Value: NEO-M8
footprint NEO (u-blox NEO GNSS module)
pins: 1 SAFEBOOT_N, 2 D_SEL, 3 TIMEPULSE, 4 EXTINT, 5 USB_DM, 6 USB_DP, 7 VDD_USB, 8 RESET_N, 9 VCC_RF, 10 GND, 11 RF_IN, 12 GND, 13 GND, 14 LNA_EN, 15 RESERVED, 16 RESERVED, 17 RESERVED, 18 SDA/SPI_CS_N, 19 SCL/SPI CLK, 20 TXD/SPI MISO, 21 RXD/SPI_MOSI, 22 V_BCKP, 23 VCC, 24 GND

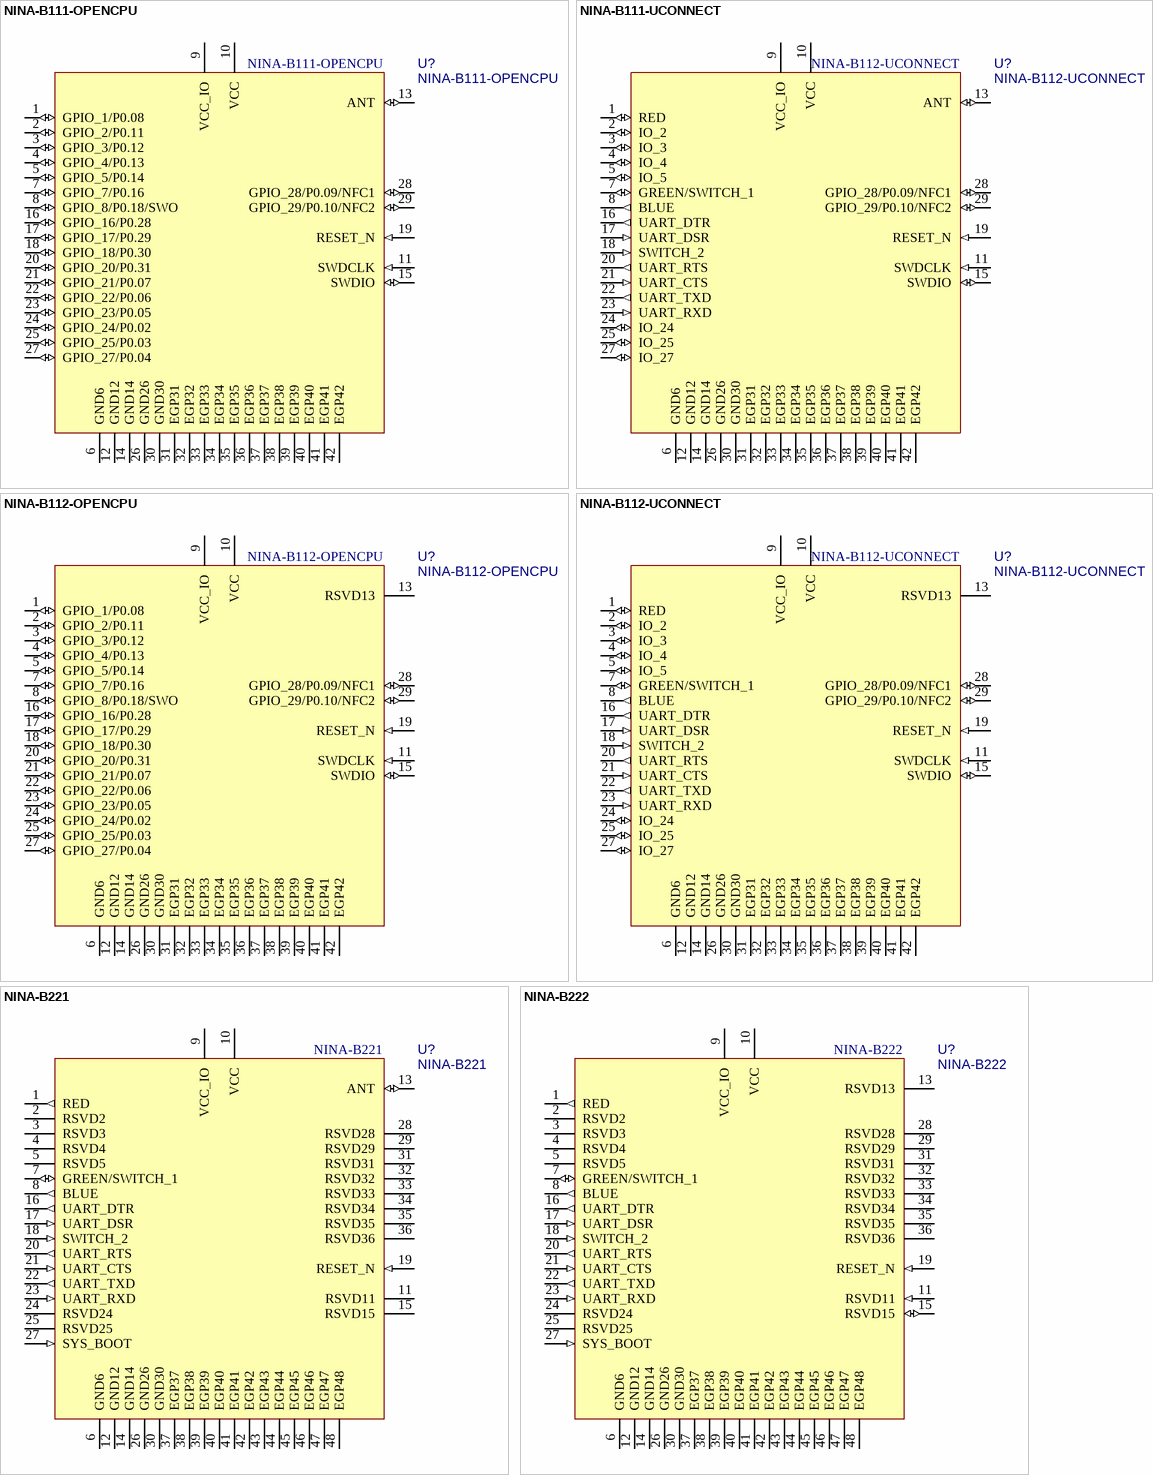
[diagram p4: symbols NINA-B111-OPENCPU to NINA-B222]

## NINA-B111-OPENCPU
designator U?
u-blox NINA-B112 Bluetooth 5 LE module; Part Description: Stand-alone Bluetooth low energy module; Manufacturer: u-blox; Value: NINA-B111-OPENCPU
footprint NINA_LGA42R_1060X1000X220_PIN (Stand-alone Bluetooth low energy module)
pins: 1 GPIO_1/P0.08 (io), 2 GPIO_2/P0.11 (io), 3 GPIO_3/P0.12 (io), 4 GPIO_4/P0.13 (io), 5 GPIO_5/P0.14 (io), 6 GND6 (power), 7 GPIO_7/P0.16 (io), 8 GPIO_8/P0.18/SWO (io), 9 VCC_IO (power), 10 VCC (power), 11 SWDCLK (in), 12 GND12 (power), 13 ANT (io), 14 GND14 (power), 15 SWDIO (io), 16 GPIO_16/P0.28 (io), 17 GPIO_17/P0.29 (io), 18 GPIO_18/P0.30 (io), 19 RESET_N (in), 20 GPIO_20/P0.31 (io), 21 GPIO_21/P0.07 (io), 22 GPIO_22/P0.06 (io), 23 GPIO_23/P0.05 (io), 24 GPIO_24/P0.02 (io), 25 GPIO_25/P0.03 (io), 26 GND26 (power), 27 GPIO_27/P0.04 (io), 28 GPIO_28/P0.09/NFC1 (io), 29 GPIO_29/P0.10/NFC2 (io), 30 GND30 (power), 31 EGP31 (power), 32 EGP32 (power), 33 EGP33 (power), 34 EGP34 (power), 35 EGP35 (power), 36 EGP36 (power), 37 EGP37 (power), 38 EGP38 (power), 39 EGP39 (power), 40 EGP40 (power), 41 EGP41 (power), 42 EGP42 (power)

## NINA-B111-UCONNECT
designator U?, comment NINA-B112-UCONNECT
u-blox NINA-B112 Bluetooth 5 LE module; Part Description: Stand-alone Bluetooth low energy module; Manufacturer: u-blox; Value: NINA-B112-UCONNECT
footprint NINA_LGA42R_1060X1000X220_PIN (Stand-alone Bluetooth low energy module)
pins: 1 RED (io), 2 IO_2 (io), 3 IO_3 (io), 4 IO_4 (io), 5 IO_5 (io), 6 GND6 (power), 7 GREEN/SWITCH_1 (io), 8 BLUE (out), 9 VCC_IO (power), 10 VCC (power), 11 SWDCLK (in), 12 GND12 (power), 13 ANT (io), 14 GND14 (power), 15 SWDIO (io), 16 UART_DTR (out), 17 UART_DSR (in), 18 SWITCH_2 (in), 19 RESET_N (in), 20 UART_RTS (out), 21 UART_CTS (in), 22 UART_TXD (out), 23 UART_RXD (in), 24 IO_24 (io), 25 IO_25 (io), 26 GND26 (power), 27 IO_27 (io), 28 GPIO_28/P0.09/NFC1 (io), 29 GPIO_29/P0.10/NFC2 (io), 30 GND30 (power), 31 EGP31 (power), 32 EGP32 (power), 33 EGP33 (power), 34 EGP34 (power), 35 EGP35 (power), 36 EGP36 (power), 37 EGP37 (power), 38 EGP38 (power), 39 EGP39 (power), 40 EGP40 (power), 41 EGP41 (power), 42 EGP42 (power)

## NINA-B112-OPENCPU
designator U?
u-blox NINA-B112 Bluetooth 5 LE module; Part Description: Stand-alone Bluetooth low energy module; Manufacturer: u-blox; Value: NINA-B112-OPENCPU
footprint NINA_LGA42R_1400X1000X380_PIFA (Stand-alone Bluetooth low energy module)
pins: 1 GPIO_1/P0.08 (io), 2 GPIO_2/P0.11 (io), 3 GPIO_3/P0.12 (io), 4 GPIO_4/P0.13 (io), 5 GPIO_5/P0.14 (io), 6 GND6 (power), 7 GPIO_7/P0.16 (io), 8 GPIO_8/P0.18/SWO (io), 9 VCC_IO (power), 10 VCC (power), 11 SWDCLK (in), 12 GND12 (power), 13 RSVD13, 14 GND14 (power), 15 SWDIO (io), 16 GPIO_16/P0.28 (io), 17 GPIO_17/P0.29 (io), 18 GPIO_18/P0.30 (io), 19 RESET_N (in), 20 GPIO_20/P0.31 (io), 21 GPIO_21/P0.07 (io), 22 GPIO_22/P0.06 (io), 23 GPIO_23/P0.05 (io), 24 GPIO_24/P0.02 (io), 25 GPIO_25/P0.03 (io), 26 GND26 (power), 27 GPIO_27/P0.04 (io), 28 GPIO_28/P0.09/NFC1 (io), 29 GPIO_29/P0.10/NFC2 (io), 30 GND30 (power), 31 EGP31 (power), 32 EGP32 (power), 33 EGP33 (power), 34 EGP34 (power), 35 EGP35 (power), 36 EGP36 (power), 37 EGP37 (power), 38 EGP38 (power), 39 EGP39 (power), 40 EGP40 (power), 41 EGP41 (power), 42 EGP42 (power)

## NINA-B112-UCONNECT
designator U?
u-blox NINA-B112 Bluetooth 5 LE module; Part Description: Stand-alone Bluetooth low energy module; Manufacturer: u-blox; Value: NINA-B112-UCONNECT
footprint NINA_LGA42R_1400X1000X380_PIFA (Stand-alone Bluetooth low energy module)
pins: 1 RED (io), 2 IO_2 (io), 3 IO_3 (io), 4 IO_4 (io), 5 IO_5 (io), 6 GND6 (power), 7 GREEN/SWITCH_1 (io), 8 BLUE (out), 9 VCC_IO (power), 10 VCC (power), 11 SWDCLK (in), 12 GND12 (power), 13 RSVD13, 14 GND14 (power), 15 SWDIO (io), 16 UART_DTR (out), 17 UART_DSR (in), 18 SWITCH_2 (in), 19 RESET_N (in), 20 UART_RTS (out), 21 UART_CTS (in), 22 UART_TXD (out), 23 UART_RXD (in), 24 IO_24 (io), 25 IO_25 (io), 26 GND26 (power), 27 IO_27 (io), 28 GPIO_28/P0.09/NFC1 (io), 29 GPIO_29/P0.10/NFC2 (io), 30 GND30 (power), 31 EGP31 (power), 32 EGP32 (power), 33 EGP33 (power), 34 EGP34 (power), 35 EGP35 (power), 36 EGP36 (power), 37 EGP37 (power), 38 EGP38 (power), 39 EGP39 (power), 40 EGP40 (power), 41 EGP41 (power), 42 EGP42 (power)

## NINA-B221
designator U?
u-blox NINA-B221 Bluetooth 5 LE, WiFi module; Part Description: Stand-alone Bluetooth low energy module; Manufacturer: u-blox; Value: NINA-B221
footprint NINA_LGA48R_1060X1000X220_PIN (Stand-alone Bluetooth low energy module)
pins: 1 RED (out), 2 RSVD2, 3 RSVD3, 4 RSVD4, 5 RSVD5, 6 GND6 (power), 7 GREEN/SWITCH_1 (io), 8 BLUE (out), 9 VCC_IO (power), 10 VCC (power), 11 RSVD11, 12 GND12 (power), 13 ANT (io), 14 GND14 (power), 15 RSVD15, 16 UART_DTR (out), 17 UART_DSR (in), 18 SWITCH_2 (in), 19 RESET_N (in), 20 UART_RTS (out), 21 UART_CTS (in), 22 UART_TXD (out), 23 UART_RXD (in), 24 RSVD24, 25 RSVD25, 26 GND26 (power), 27 SYS_BOOT (in), 28 RSVD28, 29 RSVD29, 30 GND30 (power), 31 RSVD31, 32 RSVD32, 33 RSVD33, 34 RSVD34, 35 RSVD35, 36 RSVD36, 37 EGP37 (power), 38 EGP38 (power), 39 EGP39 (power), 40 EGP40 (power), 41 EGP41 (power), 42 EGP42 (power), 43 EGP43 (power), 44 EGP44 (power), 45 EGP45 (power), 46 EGP46 (power), 47 EGP47 (power), 48 EGP48 (power)

## NINA-B222
designator U?
u-blox NINA-B221 Bluetooth 5 LE, WiFi module; Part Description: Stand-alone Bluetooth low energy module; Manufacturer: u-blox; Value: NINA-B222
footprint NINA_LGA48R_1400X1000X380_PIFA (Stand-alone Bluetooth low energy module)
pins: 1 RED (out), 2 RSVD2, 3 RSVD3, 4 RSVD4, 5 RSVD5, 6 GND6 (power), 7 GREEN/SWITCH_1 (io), 8 BLUE (out), 9 VCC_IO (power), 10 VCC (power), 11 RSVD11 (in), 12 GND12 (power), 13 RSVD13, 14 GND14 (power), 15 RSVD15 (io), 16 UART_DTR (out), 17 UART_DSR (in), 18 SWITCH_2 (in), 19 RESET_N (in), 20 UART_RTS (out), 21 UART_CTS (in), 22 UART_TXD (out), 23 UART_RXD (in), 24 RSVD24, 25 RSVD25, 26 GND26 (power), 27 SYS_BOOT (in), 28 RSVD28, 29 RSVD29, 30 GND30 (power), 31 RSVD31, 32 RSVD32, 33 RSVD33, 34 RSVD34, 35 RSVD35, 36 RSVD36, 37 EGP37 (power), 38 EGP38 (power), 39 EGP39 (power), 40 EGP40 (power), 41 EGP41 (power), 42 EGP42 (power), 43 EGP43 (power), 44 EGP44 (power), 45 EGP45 (power), 46 EGP46 (power), 47 EGP47 (power), 48 EGP48 (power)

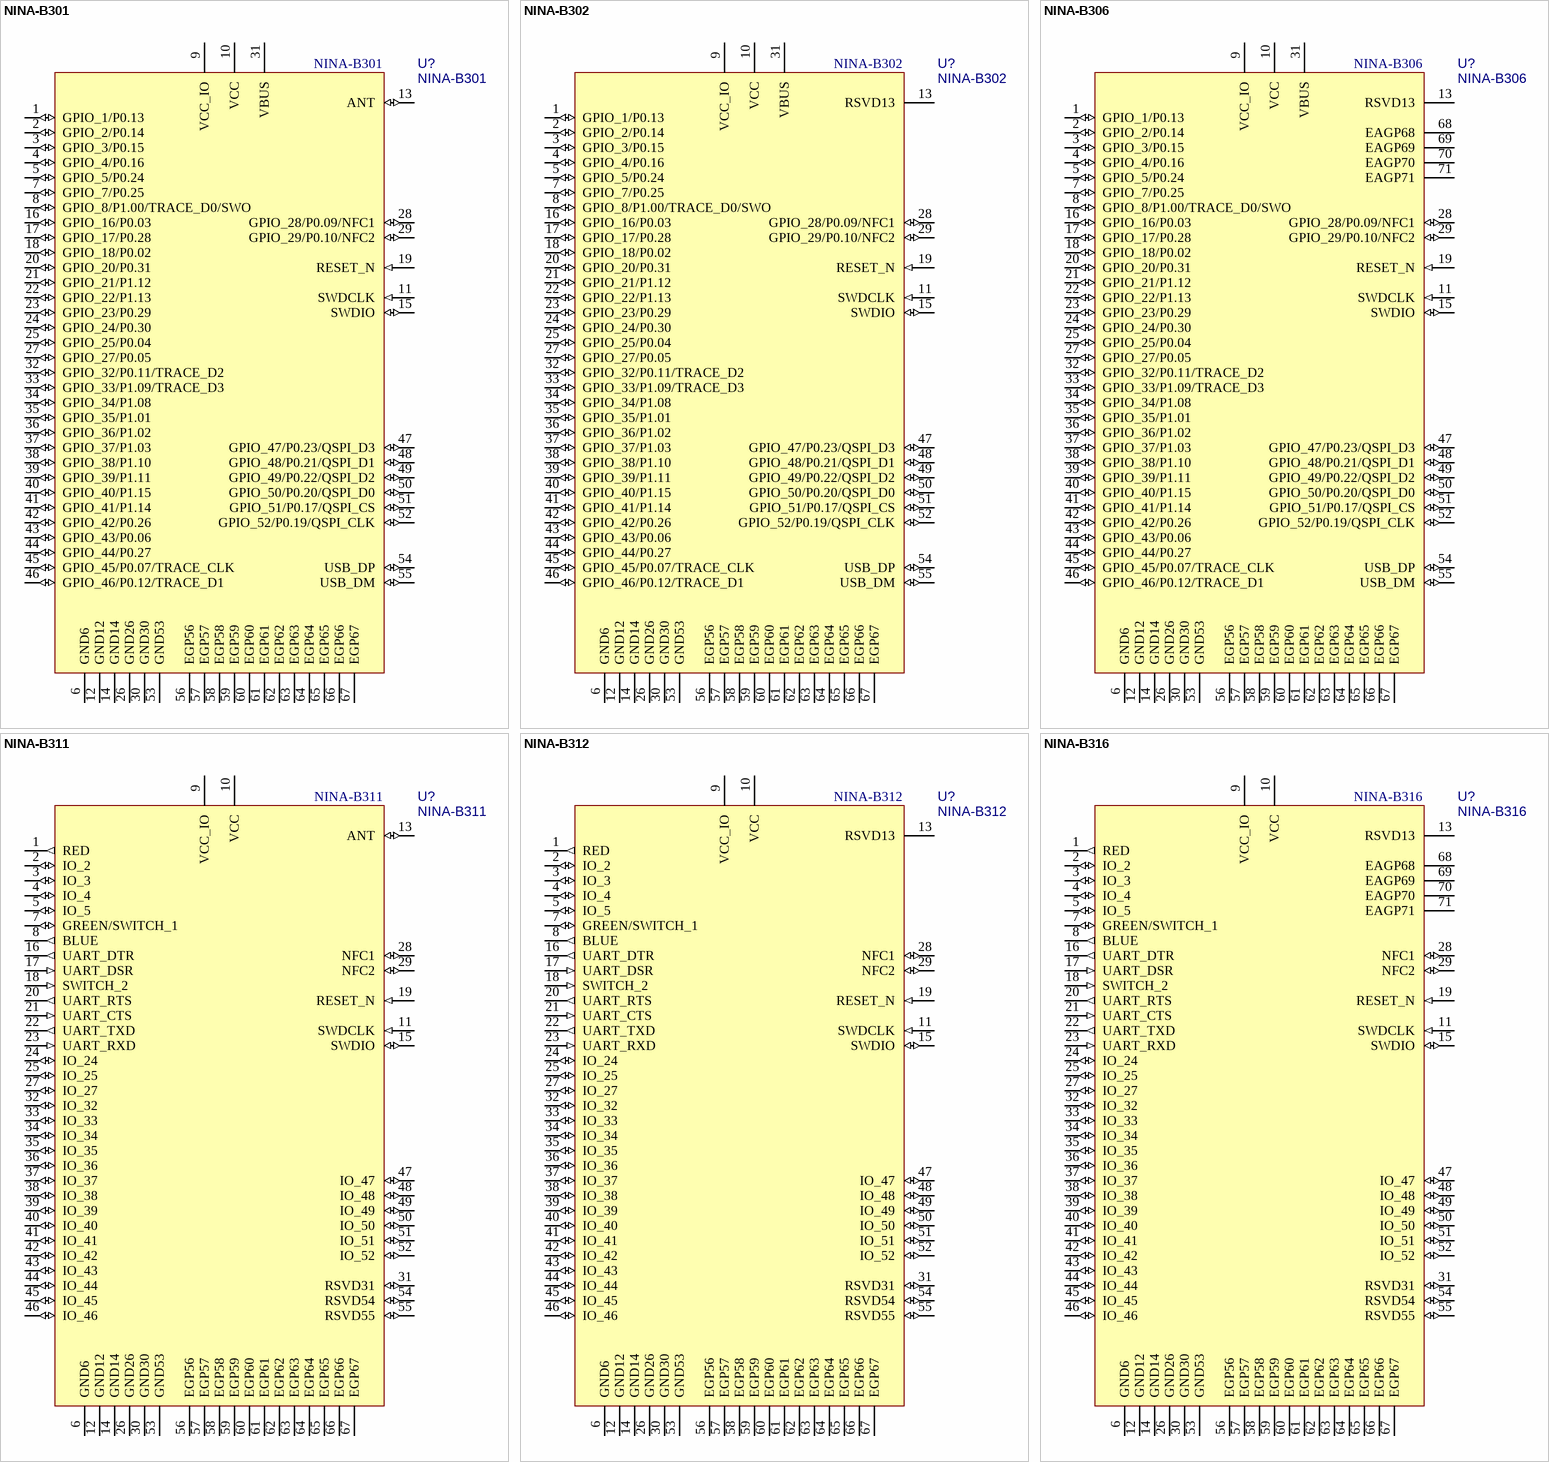
[diagram p5: symbols NINA-B301 to NINA-B316]

## NINA-B301
designator U?
u-blox NINA-B301 Bluetooth 5 LE, 802.15.4 module; Part Description: Stand-alone Bluetooth low energy module; Manufacturer: u-blox; Value: NINA-B301
footprint NINA_LGA67R_1160X1000X223_PIN (Stand-alone Bluetooth low energy module)
pins: 1 GPIO_1/P0.13 (io), 2 GPIO_2/P0.14 (io), 3 GPIO_3/P0.15 (io), 4 GPIO_4/P0.16 (io), 5 GPIO_5/P0.24 (io), 6 GND6 (power), 7 GPIO_7/P0.25 (io), 8 GPIO_8/P1.00/TRACE_D0/SWO (io), 9 VCC_IO (power), 10 VCC (power), 11 SWDCLK (in), 12 GND12 (power), 13 ANT (io), 14 GND14 (power), 15 SWDIO (io), 16 GPIO_16/P0.03 (io), 17 GPIO_17/P0.28 (io), 18 GPIO_18/P0.02 (io), 19 RESET_N (in), 20 GPIO_20/P0.31 (io), 21 GPIO_21/P1.12 (io), 22 GPIO_22/P1.13 (io), 23 GPIO_23/P0.29 (io), 24 GPIO_24/P0.30 (io), 25 GPIO_25/P0.04 (io), 26 GND26 (power), 27 GPIO_27/P0.05 (io), 28 GPIO_28/P0.09/NFC1 (io), 29 GPIO_29/P0.10/NFC2 (io), 30 GND30 (power), 31 VBUS (power), 32 GPIO_32/P0.11/TRACE_D2 (io), 33 GPIO_33/P1.09/TRACE_D3 (io), 34 GPIO_34/P1.08 (io), 35 GPIO_35/P1.01 (io), 36 GPIO_36/P1.02 (io), 37 GPIO_37/P1.03 (io), 38 GPIO_38/P1.10 (io), 39 GPIO_39/P1.11 (io), 40 GPIO_40/P1.15 (io), 41 GPIO_41/P1.14 (io), 42 GPIO_42/P0.26 (io), 43 GPIO_43/P0.06 (io), 44 GPIO_44/P0.27 (io), 45 GPIO_45/P0.07/TRACE_CLK (io), 46 GPIO_46/P0.12/TRACE_D1 (io), 47 GPIO_47/P0.23/QSPI_D3 (io), 48 GPIO_48/P0.21/QSPI_D1 (io), 49 GPIO_49/P0.22/QSPI_D2 (io), 50 GPIO_50/P0.20/QSPI_D0 (io), 51 GPIO_51/P0.17/QSPI_CS (io), 52 GPIO_52/P0.19/QSPI_CLK (io), 53 GND53 (power), 54 USB_DP (io), 55 USB_DM (io), 56 EGP56 (power), 57 EGP57 (power), 58 EGP58 (power), 59 EGP59 (power), 60 EGP60 (power), 61 EGP61 (power), 62 EGP62 (power), 63 EGP63 (power), 64 EGP64 (power), 65 EGP65 (power), 66 EGP66 (power), 67 EGP67 (power)

## NINA-B302
designator U?
u-blox NINA-B302 Bluetooth 5 LE, 802.15.4 module; Part Description: Stand-alone Bluetooth low energy module; Manufacturer: u-blox; Value: NINA-B302
footprint NINA_LGA67R_1500X1000X338_PIFA (Stand-alone Bluetooth low energy module)
pins: 1 GPIO_1/P0.13 (io), 2 GPIO_2/P0.14 (io), 3 GPIO_3/P0.15 (io), 4 GPIO_4/P0.16 (io), 5 GPIO_5/P0.24 (io), 6 GND6 (power), 7 GPIO_7/P0.25 (io), 8 GPIO_8/P1.00/TRACE_D0/SWO (io), 9 VCC_IO (power), 10 VCC (power), 11 SWDCLK (in), 12 GND12 (power), 13 RSVD13, 14 GND14 (power), 15 SWDIO (io), 16 GPIO_16/P0.03 (io), 17 GPIO_17/P0.28 (io), 18 GPIO_18/P0.02 (io), 19 RESET_N (in), 20 GPIO_20/P0.31 (io), 21 GPIO_21/P1.12 (io), 22 GPIO_22/P1.13 (io), 23 GPIO_23/P0.29 (io), 24 GPIO_24/P0.30 (io), 25 GPIO_25/P0.04 (io), 26 GND26 (power), 27 GPIO_27/P0.05 (io), 28 GPIO_28/P0.09/NFC1 (io), 29 GPIO_29/P0.10/NFC2 (io), 30 GND30 (power), 31 VBUS (power), 32 GPIO_32/P0.11/TRACE_D2 (io), 33 GPIO_33/P1.09/TRACE_D3 (io), 34 GPIO_34/P1.08 (io), 35 GPIO_35/P1.01 (io), 36 GPIO_36/P1.02 (io), 37 GPIO_37/P1.03 (io), 38 GPIO_38/P1.10 (io), 39 GPIO_39/P1.11 (io), 40 GPIO_40/P1.15 (io), 41 GPIO_41/P1.14 (io), 42 GPIO_42/P0.26 (io), 43 GPIO_43/P0.06 (io), 44 GPIO_44/P0.27 (io), 45 GPIO_45/P0.07/TRACE_CLK (io), 46 GPIO_46/P0.12/TRACE_D1 (io), 47 GPIO_47/P0.23/QSPI_D3 (io), 48 GPIO_48/P0.21/QSPI_D1 (io), 49 GPIO_49/P0.22/QSPI_D2 (io), 50 GPIO_50/P0.20/QSPI_D0 (io), 51 GPIO_51/P0.17/QSPI_CS (io), 52 GPIO_52/P0.19/QSPI_CLK (io), 53 GND53 (power), 54 USB_DP (io), 55 USB_DM (io), 56 EGP56 (power), 57 EGP57 (power), 58 EGP58 (power), 59 EGP59 (power), 60 EGP60 (power), 61 EGP61 (power), 62 EGP62 (power), 63 EGP63 (power), 64 EGP64 (power), 65 EGP65 (power), 66 EGP66 (power), 67 EGP67 (power)

## NINA-B306
designator U?
u-blox NINA-B306 Bluetooth 5 LE, 802.15.4 module; Part Description: Stand-alone Bluetooth low energy module; Manufacturer: u-blox; Value: NINA-B306
footprint NINA_LGA71R_1500X1000X223_PCB (Stand-alone Bluetooth low energy module)
pins: 1 GPIO_1/P0.13 (io), 2 GPIO_2/P0.14 (io), 3 GPIO_3/P0.15 (io), 4 GPIO_4/P0.16 (io), 5 GPIO_5/P0.24 (io), 6 GND6 (power), 7 GPIO_7/P0.25 (io), 8 GPIO_8/P1.00/TRACE_D0/SWO (io), 9 VCC_IO (power), 10 VCC (power), 11 SWDCLK (in), 12 GND12 (power), 13 RSVD13, 14 GND14 (power), 15 SWDIO (io), 16 GPIO_16/P0.03 (io), 17 GPIO_17/P0.28 (io), 18 GPIO_18/P0.02 (io), 19 RESET_N (in), 20 GPIO_20/P0.31 (io), 21 GPIO_21/P1.12 (io), 22 GPIO_22/P1.13 (io), 23 GPIO_23/P0.29 (io), 24 GPIO_24/P0.30 (io), 25 GPIO_25/P0.04 (io), 26 GND26 (power), 27 GPIO_27/P0.05 (io), 28 GPIO_28/P0.09/NFC1 (io), 29 GPIO_29/P0.10/NFC2 (io), 30 GND30 (power), 31 VBUS (power), 32 GPIO_32/P0.11/TRACE_D2 (io), 33 GPIO_33/P1.09/TRACE_D3 (io), 34 GPIO_34/P1.08 (io), 35 GPIO_35/P1.01 (io), 36 GPIO_36/P1.02 (io), 37 GPIO_37/P1.03 (io), 38 GPIO_38/P1.10 (io), 39 GPIO_39/P1.11 (io), 40 GPIO_40/P1.15 (io), 41 GPIO_41/P1.14 (io), 42 GPIO_42/P0.26 (io), 43 GPIO_43/P0.06 (io), 44 GPIO_44/P0.27 (io), 45 GPIO_45/P0.07/TRACE_CLK (io), 46 GPIO_46/P0.12/TRACE_D1 (io), 47 GPIO_47/P0.23/QSPI_D3 (io), 48 GPIO_48/P0.21/QSPI_D1 (io), 49 GPIO_49/P0.22/QSPI_D2 (io), 50 GPIO_50/P0.20/QSPI_D0 (io), 51 GPIO_51/P0.17/QSPI_CS (io), 52 GPIO_52/P0.19/QSPI_CLK (io), 53 GND53 (power), 54 USB_DP (io), 55 USB_DM (io), 56 EGP56 (power), 57 EGP57 (power), 58 EGP58 (power), 59 EGP59 (power), 60 EGP60 (power), 61 EGP61 (power), 62 EGP62 (power), 63 EGP63 (power), 64 EGP64 (power), 65 EGP65 (power), 66 EGP66 (power), 67 EGP67 (power), 68 EAGP68 (power), 69 EAGP69 (power), 70 EAGP70 (power), 71 EAGP71 (power)

## NINA-B311
designator U?
u-blox NINA-B311 Bluetooth 5 LE, 802.15.4 module; Part Description: Stand-alone Bluetooth low energy module; Manufacturer: u-blox; Value: NINA-B311
footprint NINA_LGA67R_1160X1000X223_PIN (Stand-alone Bluetooth low energy module)
pins: 1 RED (out), 2 IO_2 (io), 3 IO_3 (io), 4 IO_4 (io), 5 IO_5 (io), 6 GND6 (power), 7 GREEN/SWITCH_1 (io), 8 BLUE (out), 9 VCC_IO (power), 10 VCC (power), 11 SWDCLK (in), 12 GND12 (power), 13 ANT (io), 14 GND14 (power), 15 SWDIO (io), 16 UART_DTR (out), 17 UART_DSR (in), 18 SWITCH_2 (in), 19 RESET_N (in), 20 UART_RTS (out), 21 UART_CTS (in), 22 UART_TXD (out), 23 UART_RXD (in), 24 IO_24 (io), 25 IO_25 (io), 26 GND26 (power), 27 IO_27 (io), 28 NFC1 (io), 29 NFC2 (io), 30 GND30 (power), 31 RSVD31 (io), 32 IO_32 (io), 33 IO_33 (io), 34 IO_34 (io), 35 IO_35 (io), 36 IO_36 (io), 37 IO_37 (io), 38 IO_38 (io), 39 IO_39 (io), 40 IO_40 (io), 41 IO_41 (io), 42 IO_42 (io), 43 IO_43 (io), 44 IO_44 (io), 45 IO_45 (io), 46 IO_46 (io), 47 IO_47 (io), 48 IO_48 (io), 49 IO_49 (io), 50 IO_50 (io), 51 IO_51 (io), 52 IO_52 (io), 53 GND53 (power), 54 RSVD54 (io), 55 RSVD55 (io), 56 EGP56 (power), 57 EGP57 (power), 58 EGP58 (power), 59 EGP59 (power), 60 EGP60 (power), 61 EGP61 (power), 62 EGP62 (power), 63 EGP63 (power), 64 EGP64 (power), 65 EGP65 (power), 66 EGP66 (power), 67 EGP67 (power)

## NINA-B312
designator U?
u-blox NINA-B312 Bluetooth 5 LE, 802.15.4 module; Part Description: Stand-alone Bluetooth low energy module; Manufacturer: u-blox; Value: NINA-B312
footprint NINA_LGA67R_1500X1000X338_PIFA (Stand-alone Bluetooth low energy module)
pins: 1 RED (out), 2 IO_2 (io), 3 IO_3 (io), 4 IO_4 (io), 5 IO_5 (io), 6 GND6 (power), 7 GREEN/SWITCH_1 (io), 8 BLUE (out), 9 VCC_IO (power), 10 VCC (power), 11 SWDCLK (in), 12 GND12 (power), 13 RSVD13, 14 GND14 (power), 15 SWDIO (io), 16 UART_DTR (out), 17 UART_DSR (in), 18 SWITCH_2 (in), 19 RESET_N (in), 20 UART_RTS (out), 21 UART_CTS (in), 22 UART_TXD (out), 23 UART_RXD (in), 24 IO_24 (io), 25 IO_25 (io), 26 GND26 (power), 27 IO_27 (io), 28 NFC1 (io), 29 NFC2 (io), 30 GND30 (power), 31 RSVD31 (io), 32 IO_32 (io), 33 IO_33 (io), 34 IO_34 (io), 35 IO_35 (io), 36 IO_36 (io), 37 IO_37 (io), 38 IO_38 (io), 39 IO_39 (io), 40 IO_40 (io), 41 IO_41 (io), 42 IO_42 (io), 43 IO_43 (io), 44 IO_44 (io), 45 IO_45 (io), 46 IO_46 (io), 47 IO_47 (io), 48 IO_48 (io), 49 IO_49 (io), 50 IO_50 (io), 51 IO_51 (io), 52 IO_52 (io), 53 GND53 (power), 54 RSVD54 (io), 55 RSVD55 (io), 56 EGP56 (power), 57 EGP57 (power), 58 EGP58 (power), 59 EGP59 (power), 60 EGP60 (power), 61 EGP61 (power), 62 EGP62 (power), 63 EGP63 (power), 64 EGP64 (power), 65 EGP65 (power), 66 EGP66 (power), 67 EGP67 (power)

## NINA-B316
designator U?
u-blox NINA-B316 Bluetooth 5 LE, 802.15.4 module; Part Description: Stand-alone Bluetooth low energy module; Manufacturer: u-blox; Value: NINA-B316
footprint NINA_LGA71R_1500X1000X223_PCB (Stand-alone Bluetooth low energy module)
pins: 1 RED (out), 2 IO_2 (io), 3 IO_3 (io), 4 IO_4 (io), 5 IO_5 (io), 6 GND6 (power), 7 GREEN/SWITCH_1 (io), 8 BLUE (out), 9 VCC_IO (power), 10 VCC (power), 11 SWDCLK (in), 12 GND12 (power), 13 RSVD13, 14 GND14 (power), 15 SWDIO (io), 16 UART_DTR (out), 17 UART_DSR (in), 18 SWITCH_2 (in), 19 RESET_N (in), 20 UART_RTS (out), 21 UART_CTS (in), 22 UART_TXD (out), 23 UART_RXD (in), 24 IO_24 (io), 25 IO_25 (io), 26 GND26 (power), 27 IO_27 (io), 28 NFC1 (io), 29 NFC2 (io), 30 GND30 (power), 31 RSVD31 (io), 32 IO_32 (io), 33 IO_33 (io), 34 IO_34 (io), 35 IO_35 (io), 36 IO_36 (io), 37 IO_37 (io), 38 IO_38 (io), 39 IO_39 (io), 40 IO_40 (io), 41 IO_41 (io), 42 IO_42 (io), 43 IO_43 (io), 44 IO_44 (io), 45 IO_45 (io), 46 IO_46 (io), 47 IO_47 (io), 48 IO_48 (io), 49 IO_49 (io), 50 IO_50 (io), 51 IO_51 (io), 52 IO_52 (io), 53 GND53 (power), 54 RSVD54 (io), 55 RSVD55 (io), 56 EGP56 (power), 57 EGP57 (power), 58 EGP58 (power), 59 EGP59 (power), 60 EGP60 (power), 61 EGP61 (power), 62 EGP62 (power), 63 EGP63 (power), 64 EGP64 (power), 65 EGP65 (power), 66 EGP66 (power), 67 EGP67 (power), 68 EAGP68 (power), 69 EAGP69 (power), 70 EAGP70 (power), 71 EAGP71 (power)

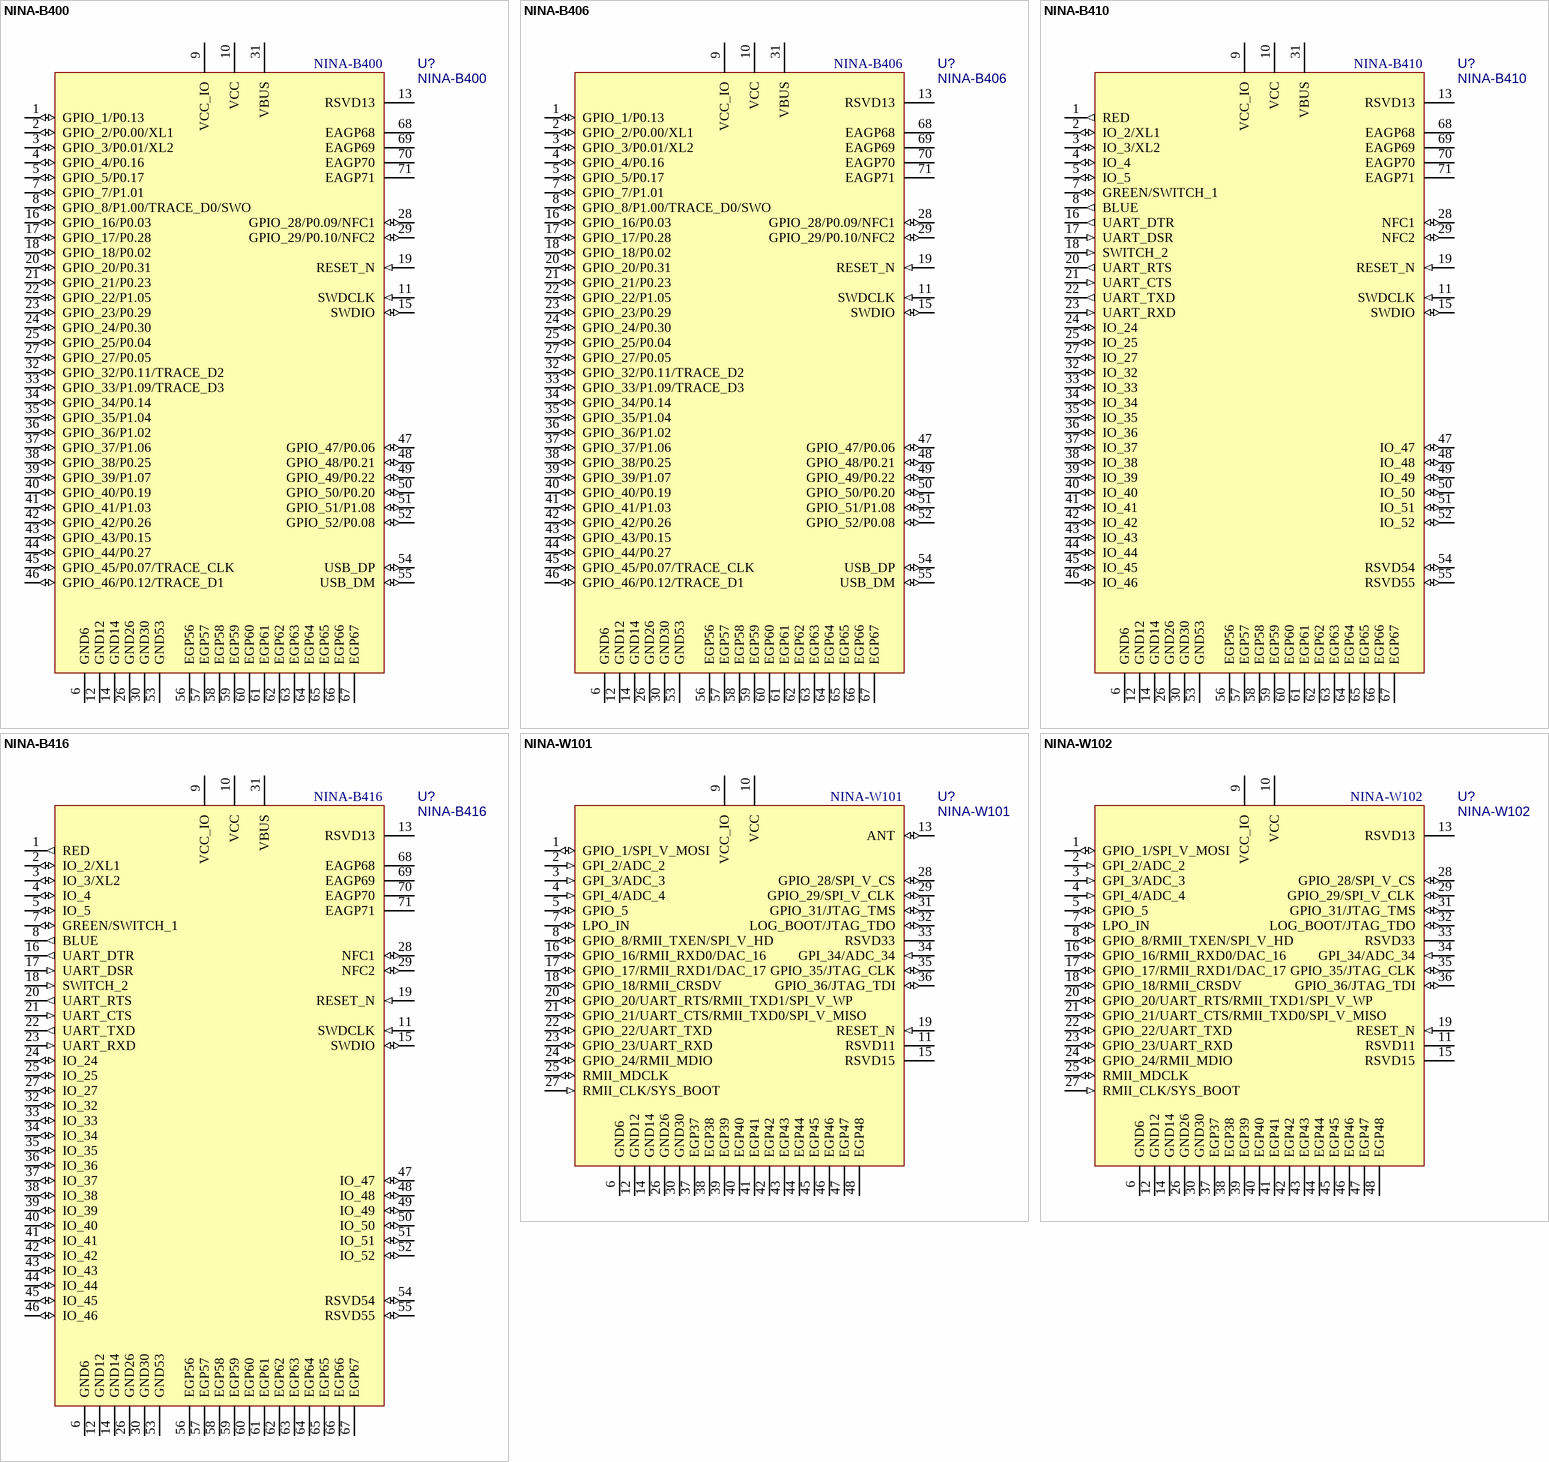
[diagram p6: symbols NINA-B400 to NINA-W102]

## NINA-B400
designator U?
u-blox NINA-B400 Bluetooth 5 LE, 802.15.4 module; Part Description: Stand-alone Bluetooth low energy module; Manufacturer: u-blox; Value: NINA-B400
footprint NINA_LGA71R_1500X1000X223_UFL (Stand-alone Bluetooth low energy module)
pins: 1 GPIO_1/P0.13 (io), 2 GPIO_2/P0.00/XL1 (io), 3 GPIO_3/P0.01/XL2 (io), 4 GPIO_4/P0.16 (io), 5 GPIO_5/P0.17 (io), 6 GND6 (power), 7 GPIO_7/P1.01 (io), 8 GPIO_8/P1.00/TRACE_D0/SWO (io), 9 VCC_IO (power), 10 VCC (power), 11 SWDCLK (in), 12 GND12 (power), 13 RSVD13, 14 GND14 (power), 15 SWDIO (io), 16 GPIO_16/P0.03 (io), 17 GPIO_17/P0.28 (io), 18 GPIO_18/P0.02 (io), 19 RESET_N (in), 20 GPIO_20/P0.31 (io), 21 GPIO_21/P0.23 (io), 22 GPIO_22/P1.05 (io), 23 GPIO_23/P0.29 (io), 24 GPIO_24/P0.30 (io), 25 GPIO_25/P0.04 (io), 26 GND26 (power), 27 GPIO_27/P0.05 (io), 28 GPIO_28/P0.09/NFC1 (io), 29 GPIO_29/P0.10/NFC2 (io), 30 GND30 (power), 31 VBUS (power), 32 GPIO_32/P0.11/TRACE_D2 (io), 33 GPIO_33/P1.09/TRACE_D3 (io), 34 GPIO_34/P0.14 (io), 35 GPIO_35/P1.04 (io), 36 GPIO_36/P1.02 (io), 37 GPIO_37/P1.06 (io), 38 GPIO_38/P0.25 (io), 39 GPIO_39/P1.07 (io), 40 GPIO_40/P0.19 (io), 41 GPIO_41/P1.03 (io), 42 GPIO_42/P0.26 (io), 43 GPIO_43/P0.15 (io), 44 GPIO_44/P0.27 (io), 45 GPIO_45/P0.07/TRACE_CLK (io), 46 GPIO_46/P0.12/TRACE_D1 (io), 47 GPIO_47/P0.06 (io), 48 GPIO_48/P0.21 (io), 49 GPIO_49/P0.22 (io), 50 GPIO_50/P0.20 (io), 51 GPIO_51/P1.08 (io), 52 GPIO_52/P0.08 (io), 53 GND53 (power), 54 USB_DP (io), 55 USB_DM (io), 56 EGP56 (power), 57 EGP57 (power), 58 EGP58 (power), 59 EGP59 (power), 60 EGP60 (power), 61 EGP61 (power), 62 EGP62 (power), 63 EGP63 (power), 64 EGP64 (power), 65 EGP65 (power), 66 EGP66 (power), 67 EGP67 (power), 68 EAGP68 (power), 69 EAGP69 (power), 70 EAGP70 (power), 71 EAGP71 (power)

## NINA-B406
designator U?
u-blox NINA-B406 Bluetooth 5 LE, 802.15.4 module; Part Description: Stand-alone Bluetooth low energy module; Manufacturer: u-blox; Value: NINA-B406
footprint NINA_LGA71R_1500X1000X223_PCB (Stand-alone Bluetooth low energy module)
pins: 1 GPIO_1/P0.13 (io), 2 GPIO_2/P0.00/XL1 (io), 3 GPIO_3/P0.01/XL2 (io), 4 GPIO_4/P0.16 (io), 5 GPIO_5/P0.17 (io), 6 GND6 (power), 7 GPIO_7/P1.01 (io), 8 GPIO_8/P1.00/TRACE_D0/SWO (io), 9 VCC_IO (power), 10 VCC (power), 11 SWDCLK (in), 12 GND12 (power), 13 RSVD13, 14 GND14 (power), 15 SWDIO (io), 16 GPIO_16/P0.03 (io), 17 GPIO_17/P0.28 (io), 18 GPIO_18/P0.02 (io), 19 RESET_N (in), 20 GPIO_20/P0.31 (io), 21 GPIO_21/P0.23 (io), 22 GPIO_22/P1.05 (io), 23 GPIO_23/P0.29 (io), 24 GPIO_24/P0.30 (io), 25 GPIO_25/P0.04 (io), 26 GND26 (power), 27 GPIO_27/P0.05 (io), 28 GPIO_28/P0.09/NFC1 (io), 29 GPIO_29/P0.10/NFC2 (io), 30 GND30 (power), 31 VBUS (power), 32 GPIO_32/P0.11/TRACE_D2 (io), 33 GPIO_33/P1.09/TRACE_D3 (io), 34 GPIO_34/P0.14 (io), 35 GPIO_35/P1.04 (io), 36 GPIO_36/P1.02 (io), 37 GPIO_37/P1.06 (io), 38 GPIO_38/P0.25 (io), 39 GPIO_39/P1.07 (io), 40 GPIO_40/P0.19 (io), 41 GPIO_41/P1.03 (io), 42 GPIO_42/P0.26 (io), 43 GPIO_43/P0.15 (io), 44 GPIO_44/P0.27 (io), 45 GPIO_45/P0.07/TRACE_CLK (io), 46 GPIO_46/P0.12/TRACE_D1 (io), 47 GPIO_47/P0.06 (io), 48 GPIO_48/P0.21 (io), 49 GPIO_49/P0.22 (io), 50 GPIO_50/P0.20 (io), 51 GPIO_51/P1.08 (io), 52 GPIO_52/P0.08 (io), 53 GND53 (power), 54 USB_DP (io), 55 USB_DM (io), 56 EGP56 (power), 57 EGP57 (power), 58 EGP58 (power), 59 EGP59 (power), 60 EGP60 (power), 61 EGP61 (power), 62 EGP62 (power), 63 EGP63 (power), 64 EGP64 (power), 65 EGP65 (power), 66 EGP66 (power), 67 EGP67 (power), 68 EAGP68 (power), 69 EAGP69 (power), 70 EAGP70 (power), 71 EAGP71 (power)

## NINA-B410
designator U?
u-blox NINA-B410 Bluetooth 5 LE, 802.15.4 module; Part Description: Stand-alone Bluetooth low energy module; Manufacturer: u-blox; Value: NINA-B410
footprint NINA_LGA71R_1500X1000X223_UFL (Stand-alone Bluetooth low energy module)
pins: 1 RED (out), 2 IO_2/XL1 (io), 3 IO_3/XL2 (io), 4 IO_4 (io), 5 IO_5 (io), 6 GND6 (power), 7 GREEN/SWITCH_1 (io), 8 BLUE (out), 9 VCC_IO (power), 10 VCC (power), 11 SWDCLK (in), 12 GND12 (power), 13 RSVD13, 14 GND14 (power), 15 SWDIO (io), 16 UART_DTR (out), 17 UART_DSR (in), 18 SWITCH_2 (in), 19 RESET_N (in), 20 UART_RTS (out), 21 UART_CTS (in), 22 UART_TXD (out), 23 UART_RXD (in), 24 IO_24 (io), 25 IO_25 (io), 26 GND26 (power), 27 IO_27 (io), 28 NFC1 (io), 29 NFC2 (io), 30 GND30 (power), 31 VBUS (power), 32 IO_32 (io), 33 IO_33 (io), 34 IO_34 (io), 35 IO_35 (io), 36 IO_36 (io), 37 IO_37 (io), 38 IO_38 (io), 39 IO_39 (io), 40 IO_40 (io), 41 IO_41 (io), 42 IO_42 (io), 43 IO_43 (io), 44 IO_44 (io), 45 IO_45 (io), 46 IO_46 (io), 47 IO_47 (io), 48 IO_48 (io), 49 IO_49 (io), 50 IO_50 (io), 51 IO_51 (io), 52 IO_52 (io), 53 GND53 (power), 54 RSVD54 (io), 55 RSVD55 (io), 56 EGP56 (power), 57 EGP57 (power), 58 EGP58 (power), 59 EGP59 (power), 60 EGP60 (power), 61 EGP61 (power), 62 EGP62 (power), 63 EGP63 (power), 64 EGP64 (power), 65 EGP65 (power), 66 EGP66 (power), 67 EGP67 (power), 68 EAGP68 (power), 69 EAGP69 (power), 70 EAGP70 (power), 71 EAGP71 (power)

## NINA-B416
designator U?
u-blox NINA-B416 Bluetooth 5 LE, 802.15.4 module; Part Description: Stand-alone Bluetooth low energy module; Manufacturer: u-blox; Value: NINA-B416
footprint NINA_LGA71R_1500X1000X223_PCB (Stand-alone Bluetooth low energy module)
pins: 1 RED (out), 2 IO_2/XL1 (io), 3 IO_3/XL2 (io), 4 IO_4 (io), 5 IO_5 (io), 6 GND6 (power), 7 GREEN/SWITCH_1 (io), 8 BLUE (out), 9 VCC_IO (power), 10 VCC (power), 11 SWDCLK (in), 12 GND12 (power), 13 RSVD13, 14 GND14 (power), 15 SWDIO (io), 16 UART_DTR (out), 17 UART_DSR (in), 18 SWITCH_2 (in), 19 RESET_N (in), 20 UART_RTS (out), 21 UART_CTS (in), 22 UART_TXD (out), 23 UART_RXD (in), 24 IO_24 (io), 25 IO_25 (io), 26 GND26 (power), 27 IO_27 (io), 28 NFC1 (io), 29 NFC2 (io), 30 GND30 (power), 31 VBUS (power), 32 IO_32 (io), 33 IO_33 (io), 34 IO_34 (io), 35 IO_35 (io), 36 IO_36 (io), 37 IO_37 (io), 38 IO_38 (io), 39 IO_39 (io), 40 IO_40 (io), 41 IO_41 (io), 42 IO_42 (io), 43 IO_43 (io), 44 IO_44 (io), 45 IO_45 (io), 46 IO_46 (io), 47 IO_47 (io), 48 IO_48 (io), 49 IO_49 (io), 50 IO_50 (io), 51 IO_51 (io), 52 IO_52 (io), 53 GND53 (power), 54 RSVD54 (io), 55 RSVD55 (io), 56 EGP56 (power), 57 EGP57 (power), 58 EGP58 (power), 59 EGP59 (power), 60 EGP60 (power), 61 EGP61 (power), 62 EGP62 (power), 63 EGP63 (power), 64 EGP64 (power), 65 EGP65 (power), 66 EGP66 (power), 67 EGP67 (power), 68 EAGP68 (power), 69 EAGP69 (power), 70 EAGP70 (power), 71 EAGP71 (power)

## NINA-W101
designator U?
u-blox NINA-W101 WiFi, Bluetooth dual-mode module; Part Description: Stand-alone Bluetooth low energy module; Manufacturer: u-blox; Value: NINA-W101
footprint NINA_LGA48R_1060X1000X220_PIN (Stand-alone Bluetooth low energy module)
pins: 1 GPIO_1/SPI_V_MOSI (io), 2 GPI_2/ADC_2 (in), 3 GPI_3/ADC_3 (in), 4 GPI_4/ADC_4 (in), 5 GPIO_5 (io), 6 GND6 (power), 7 LPO_IN (io), 8 GPIO_8/RMII_TXEN/SPI_V_HD (io), 9 VCC_IO (power), 10 VCC (power), 11 RSVD11, 12 GND12 (power), 13 ANT (io), 14 GND14 (power), 15 RSVD15, 16 GPIO_16/RMII_RXD0/DAC_16 (io), 17 GPIO_17/RMII_RXD1/DAC_17 (io), 18 GPIO_18/RMII_CRSDV (io), 19 RESET_N (in), 20 GPIO_20/UART_RTS/RMII_TXD1/SPI_V_WP (io), 21 GPIO_21/UART_CTS/RMII_TXD0/SPI_V_MISO (io), 22 GPIO_22/UART_TXD (io), 23 GPIO_23/UART_RXD (io), 24 GPIO_24/RMII_MDIO (io), 25 RMII_MDCLK (io), 26 GND26 (power), 27 RMII_CLK/SYS_BOOT (in), 28 GPIO_28/SPI_V_CS (io), 29 GPIO_29/SPI_V_CLK (io), 30 GND30 (power), 31 GPIO_31/JTAG_TMS (io), 32 LOG_BOOT/JTAG_TDO (io), 33 RSVD33, 34 GPI_34/ADC_34 (in), 35 GPIO_35/JTAG_CLK (io), 36 GPIO_36/JTAG_TDI (io), 37 EGP37 (power), 38 EGP38 (power), 39 EGP39 (power), 40 EGP40 (power), 41 EGP41 (power), 42 EGP42 (power), 43 EGP43 (power), 44 EGP44 (power), 45 EGP45 (power), 46 EGP46 (power), 47 EGP47 (power), 48 EGP48 (power)

## NINA-W102
designator U?
u-blox NINA-W102 WiFi, Bluetooth dual-mode module; Part Description: Stand-alone Bluetooth low energy module; Manufacturer: u-blox; Value: NINA-W102
footprint NINA_LGA48R_1400X1000X380_PIFA (Stand-alone Bluetooth low energy module)
pins: 1 GPIO_1/SPI_V_MOSI (io), 2 GPI_2/ADC_2 (in), 3 GPI_3/ADC_3 (in), 4 GPI_4/ADC_4 (in), 5 GPIO_5 (io), 6 GND6 (power), 7 LPO_IN (io), 8 GPIO_8/RMII_TXEN/SPI_V_HD (io), 9 VCC_IO (power), 10 VCC (power), 11 RSVD11, 12 GND12 (power), 13 RSVD13, 14 GND14 (power), 15 RSVD15, 16 GPIO_16/RMII_RXD0/DAC_16 (io), 17 GPIO_17/RMII_RXD1/DAC_17 (io), 18 GPIO_18/RMII_CRSDV (io), 19 RESET_N (in), 20 GPIO_20/UART_RTS/RMII_TXD1/SPI_V_WP (io), 21 GPIO_21/UART_CTS/RMII_TXD0/SPI_V_MISO (io), 22 GPIO_22/UART_TXD (io), 23 GPIO_23/UART_RXD (io), 24 GPIO_24/RMII_MDIO (io), 25 RMII_MDCLK (io), 26 GND26 (power), 27 RMII_CLK/SYS_BOOT (in), 28 GPIO_28/SPI_V_CS (io), 29 GPIO_29/SPI_V_CLK (io), 30 GND30 (power), 31 GPIO_31/JTAG_TMS (io), 32 LOG_BOOT/JTAG_TDO (io), 33 RSVD33, 34 GPI_34/ADC_34 (in), 35 GPIO_35/JTAG_CLK (io), 36 GPIO_36/JTAG_TDI (io), 37 EGP37 (power), 38 EGP38 (power), 39 EGP39 (power), 40 EGP40 (power), 41 EGP41 (power), 42 EGP42 (power), 43 EGP43 (power), 44 EGP44 (power), 45 EGP45 (power), 46 EGP46 (power), 47 EGP47 (power), 48 EGP48 (power)

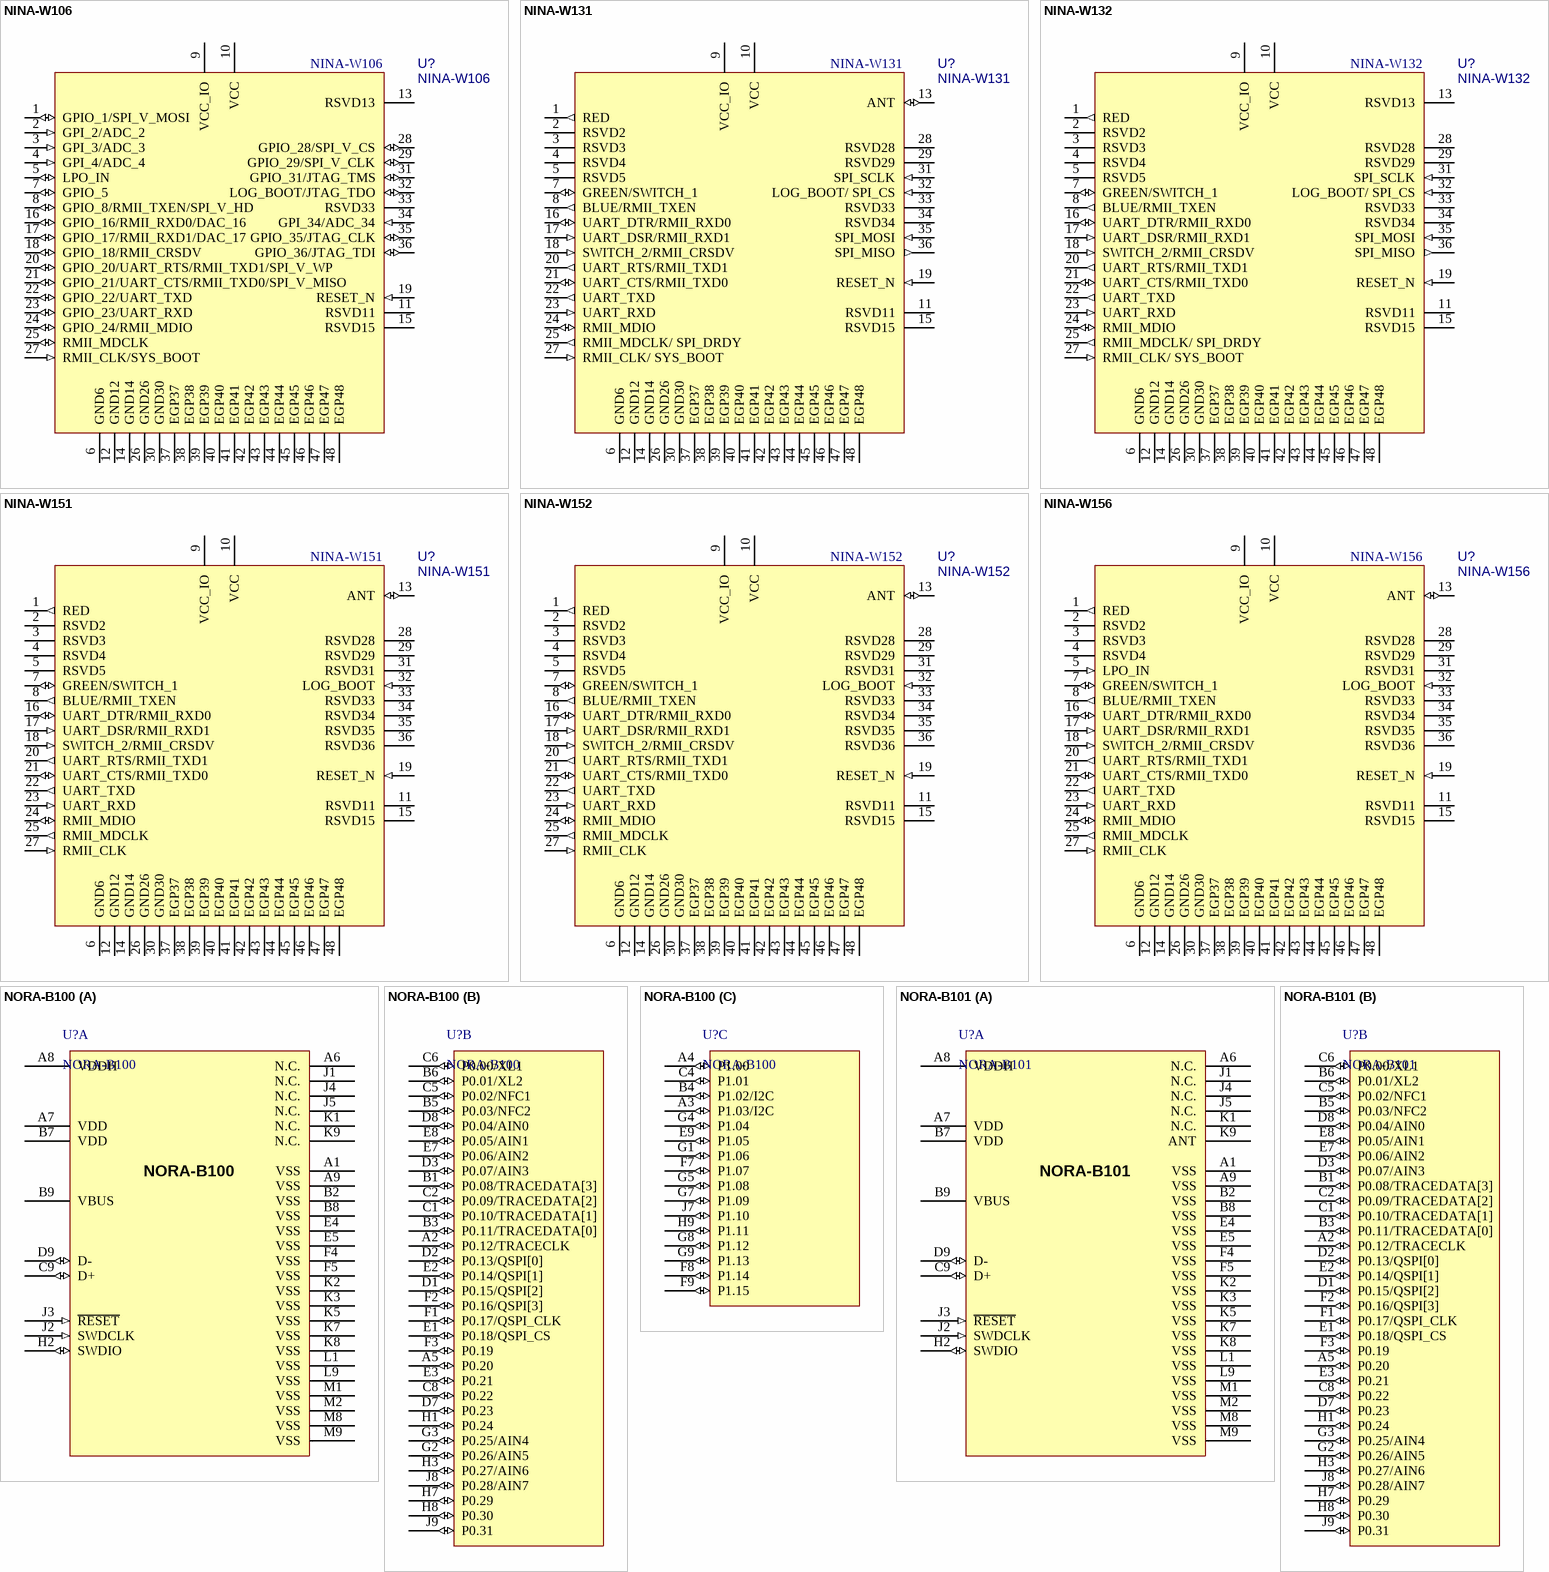
[diagram p7: symbols NINA-W106 to NORA-B101]

## NINA-W106
designator U?
u-blox NINA-W102 WiFi, Bluetooth dual-mode module; Part Description: Stand-alone Bluetooth low energy module; Manufacturer: u-blox; Value: NINA-W106
footprint NINA_LGA48R_1400X1000X223_PCB (Stand-alone Bluetooth low energy module)
pins: 1 GPIO_1/SPI_V_MOSI (io), 2 GPI_2/ADC_2 (in), 3 GPI_3/ADC_3 (in), 4 GPI_4/ADC_4 (in), 5 LPO_IN (io), 6 GND6 (power), 7 GPIO_5 (io), 8 GPIO_8/RMII_TXEN/SPI_V_HD (io), 9 VCC_IO (power), 10 VCC (power), 11 RSVD11, 12 GND12 (power), 13 RSVD13, 14 GND14 (power), 15 RSVD15, 16 GPIO_16/RMII_RXD0/DAC_16 (io), 17 GPIO_17/RMII_RXD1/DAC_17 (io), 18 GPIO_18/RMII_CRSDV (io), 19 RESET_N (in), 20 GPIO_20/UART_RTS/RMII_TXD1/SPI_V_WP (io), 21 GPIO_21/UART_CTS/RMII_TXD0/SPI_V_MISO (io), 22 GPIO_22/UART_TXD (io), 23 GPIO_23/UART_RXD (io), 24 GPIO_24/RMII_MDIO (io), 25 RMII_MDCLK (io), 26 GND26 (power), 27 RMII_CLK/SYS_BOOT (in), 28 GPIO_28/SPI_V_CS (io), 29 GPIO_29/SPI_V_CLK (io), 30 GND30 (power), 31 GPIO_31/JTAG_TMS (io), 32 LOG_BOOT/JTAG_TDO (io), 33 RSVD33, 34 GPI_34/ADC_34 (in), 35 GPIO_35/JTAG_CLK (io), 36 GPIO_36/JTAG_TDI (io), 37 EGP37 (power), 38 EGP38 (power), 39 EGP39 (power), 40 EGP40 (power), 41 EGP41 (power), 42 EGP42 (power), 43 EGP43 (power), 44 EGP44 (power), 45 EGP45 (power), 46 EGP46 (power), 47 EGP47 (power), 48 EGP48 (power)

## NINA-W131
designator U?
u-blox NINA-W131 WiFi module; Part Description: Stand-alone Bluetooth low energy module; Manufacturer: u-blox; Value: NINA-W131
footprint NINA_LGA48R_1060X1000X220_PIN (Stand-alone Bluetooth low energy module)
pins: 1 RED (out), 2 RSVD2, 3 RSVD3, 4 RSVD4, 5 RSVD5, 6 GND6 (power), 7 GREEN/SWITCH_1 (io), 8 BLUE/RMII_TXEN (out), 9 VCC_IO (power), 10 VCC (power), 11 RSVD11, 12 GND12 (power), 13 ANT (io), 14 GND14 (power), 15 RSVD15, 16 UART_DTR/RMII_RXD0 (io), 17 UART_DSR/RMII_RXD1 (in), 18 SWITCH_2/RMII_CRSDV (in), 19 RESET_N (in), 20 UART_RTS/RMII_TXD1 (out), 21 UART_CTS/RMII_TXD0 (io), 22 UART_TXD (out), 23 UART_RXD (in), 24 RMII_MDIO (io), 25 RMII_MDCLK/ SPI_DRDY (out), 26 GND26 (power), 27 RMII_CLK/ SYS_BOOT (in), 28 RSVD28, 29 RSVD29, 30 GND30 (power), 31 SPI_SCLK (in), 32 LOG_BOOT/ SPI_CS (in), 33 RSVD33, 34 RSVD34, 35 SPI_MOSI (in), 36 SPI_MISO (out), 37 EGP37 (power), 38 EGP38 (power), 39 EGP39 (power), 40 EGP40 (power), 41 EGP41 (power), 42 EGP42 (power), 43 EGP43 (power), 44 EGP44 (power), 45 EGP45 (power), 46 EGP46 (power), 47 EGP47 (power), 48 EGP48 (power)